# Altium integrated library NXP_60_26022015.IntLib: 1306 symbols (part 17 of 28)
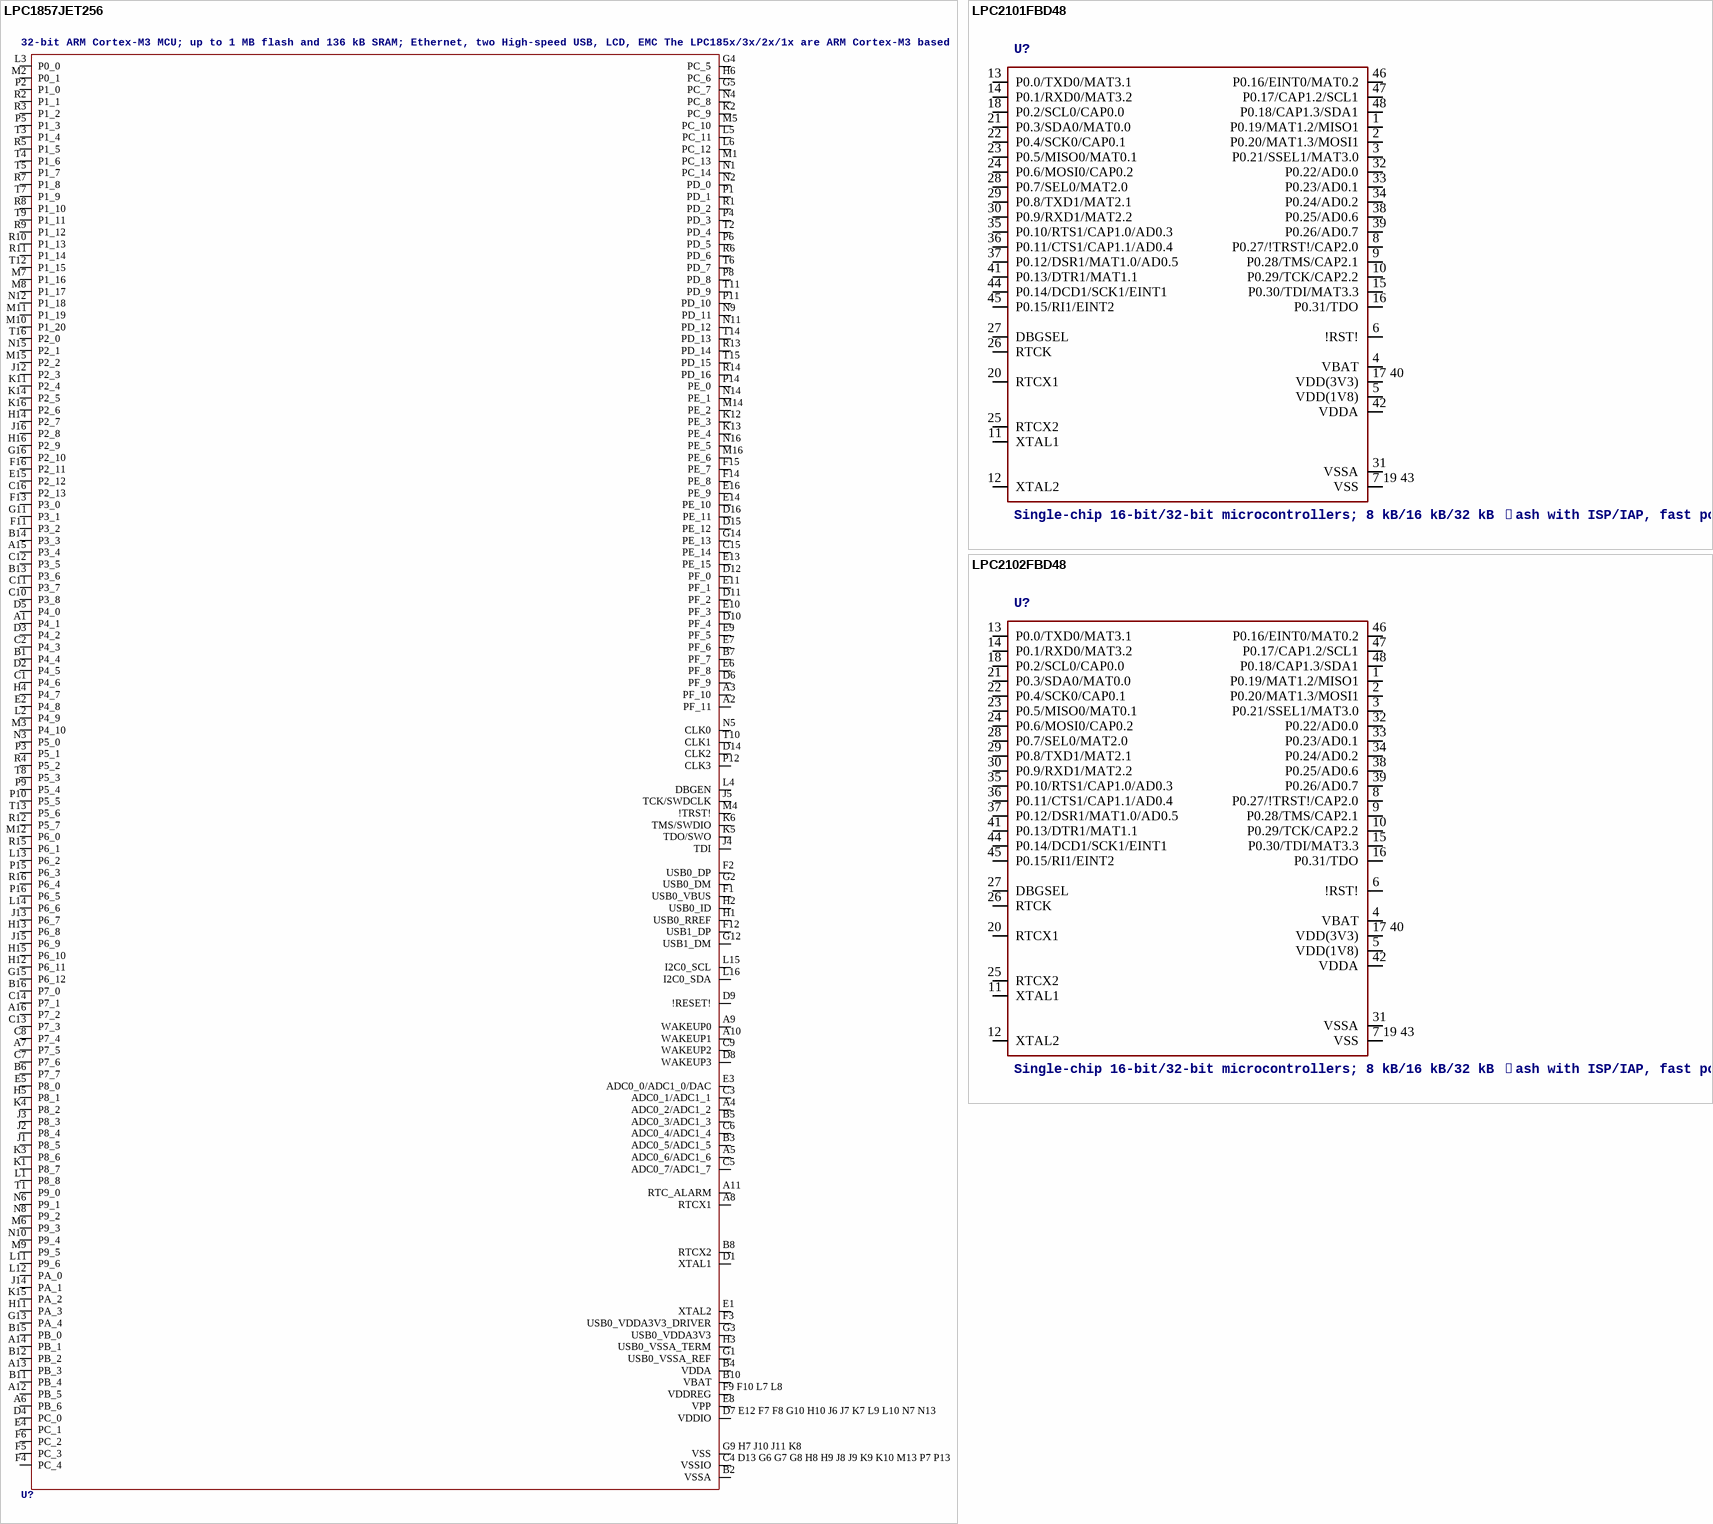
[diagram p201: symbols LPC1857JET256 to LPC2102FBD48]

## LPC2101FBD48
designator U?, comment Single-chip 16-bit/32-bit microcontrollers; 8 kB/16 kB/32 kB ﬂash with ISP/IAP, fast ports and 10-bit ADC The LPC2101/02/03 microcontrollers are based on a 16-bit/32-bit ARM7TDMI-S CPU with real-time emulation that combines the microcontroller with 8 kB, 16 kB or 32 kB of embedded high-speed ﬂash memory. A 128-bit wide memory interface and a unique accelerator architecture enable 32-bit code execution at the maximum clock rate. For critical performance in interrupt service routines and DSP algorithms, this increases performance up to 30 % over Thumb mode. For critical code size applications, the alternative 16-bit Thumb mode reduces code by more than 30 % with minimal performance penalty. Due to their tiny size and low power consumption, the LPC2101/02/03 are ideal for applications where miniaturization is a key requirement. A blend of serial communications interfaces ranging from multiple UARTs, SPI to SSP and two I2C-buses, combined with on-chip SRAM of 2 kB/4 kB/8 kB, make these devices very well suited for communication gateways and protocol converters. The superior performance also makes these devices suitable for use as math coprocessors. Various 32-bit and 16-bit timers, an improved 10-bit ADC, PWM features through output match on all timers, and 32 fast GPIO lines with up to nine edge or level sensitive external interrupt pins make these microcontrollers particularly suitable for industrial control and medical systems.    AAL Eindhoven MK
FLASH: 8kB; SRAM: 2kB
footprint SOT313-2
pins: 1 P0.19/MAT1.2/MISO1, 2 P0.20/MAT1.3/MOSI1, 3 P0.21/SSEL1/MAT3.0, 4 VBAT (power), 5 VDD(1V8) (power), 6 !RST!, 7 19 43 VSS (power), 8 P0.27/!TRST!/CAP2.0, 9 P0.28/TMS/CAP2.1, 10 P0.29/TCK/CAP2.2, 11 XTAL1, 12 XTAL2, 13 P0.0/TXD0/MAT3.1, 14 P0.1/RXD0/MAT3.2, 15 P0.30/TDI/MAT3.3, 16 P0.31/TDO, 17 40 VDD(3V3) (power), 18 P0.2/SCL0/CAP0.0, 20 RTCX1, 21 P0.3/SDA0/MAT0.0, 22 P0.4/SCK0/CAP0.1, 23 P0.5/MISO0/MAT0.1, 24 P0.6/MOSI0/CAP0.2, 25 RTCX2, 26 RTCK, 27 DBGSEL, 28 P0.7/SEL0/MAT2.0, 29 P0.8/TXD1/MAT2.1, 30 P0.9/RXD1/MAT2.2, 31 VSSA (power), 32 P0.22/AD0.0, 33 P0.23/AD0.1, 34 P0.24/AD0.2, 35 P0.10/RTS1/CAP1.0/AD0.3, 36 P0.11/CTS1/CAP1.1/AD0.4, 37 P0.12/DSR1/MAT1.0/AD0.5, 38 P0.25/AD0.6, 39 P0.26/AD0.7, 41 P0.13/DTR1/MAT1.1, 42 VDDA (power), 44 P0.14/DCD1/SCK1/EINT1, 45 P0.15/RI1/EINT2, 46 P0.16/EINT0/MAT0.2, 47 P0.17/CAP1.2/SCL1, 48 P0.18/CAP1.3/SDA1

## LPC2102FBD48
designator U?, comment Single-chip 16-bit/32-bit microcontrollers; 8 kB/16 kB/32 kB ﬂash with ISP/IAP, fast ports and 10-bit ADC The LPC2101/02/03 microcontrollers are based on a 16-bit/32-bit ARM7TDMI-S CPU with real-time emulation that combines the microcontroller with 8 kB, 16 kB or 32 kB of embedded high-speed ﬂash memory. A 128-bit wide memory interface and a unique accelerator architecture enable 32-bit code execution at the maximum clock rate. For critical performance in interrupt service routines and DSP algorithms, this increases performance up to 30 % over Thumb mode. For critical code size applications, the alternative 16-bit Thumb mode reduces code by more than 30 % with minimal performance penalty. Due to their tiny size and low power consumption, the LPC2101/02/03 are ideal for applications where miniaturization is a key requirement. A blend of serial communications interfaces ranging from multiple UARTs, SPI to SSP and two I2C-buses, combined with on-chip SRAM of 2 kB/4 kB/8 kB, make these devices very well suited for communication gateways and protocol converters. The superior performance also makes these devices suitable for use as math coprocessors. Various 32-bit and 16-bit timers, an improved 10-bit ADC, PWM features through output match on all timers, and 32 fast GPIO lines with up to nine edge or level sensitive external interrupt pins make these microcontrollers particularly suitable for industrial control and medical systems.    AAL Eindhoven MK
FLASH: 16kB; SRAM: 4kB
footprint SOT313-2
pins: 1 P0.19/MAT1.2/MISO1, 2 P0.20/MAT1.3/MOSI1, 3 P0.21/SSEL1/MAT3.0, 4 VBAT (power), 5 VDD(1V8) (power), 6 !RST!, 7 19 43 VSS (power), 8 P0.27/!TRST!/CAP2.0, 9 P0.28/TMS/CAP2.1, 10 P0.29/TCK/CAP2.2, 11 XTAL1, 12 XTAL2, 13 P0.0/TXD0/MAT3.1, 14 P0.1/RXD0/MAT3.2, 15 P0.30/TDI/MAT3.3, 16 P0.31/TDO, 17 40 VDD(3V3) (power), 18 P0.2/SCL0/CAP0.0, 20 RTCX1, 21 P0.3/SDA0/MAT0.0, 22 P0.4/SCK0/CAP0.1, 23 P0.5/MISO0/MAT0.1, 24 P0.6/MOSI0/CAP0.2, 25 RTCX2, 26 RTCK, 27 DBGSEL, 28 P0.7/SEL0/MAT2.0, 29 P0.8/TXD1/MAT2.1, 30 P0.9/RXD1/MAT2.2, 31 VSSA (power), 32 P0.22/AD0.0, 33 P0.23/AD0.1, 34 P0.24/AD0.2, 35 P0.10/RTS1/CAP1.0/AD0.3, 36 P0.11/CTS1/CAP1.1/AD0.4, 37 P0.12/DSR1/MAT1.0/AD0.5, 38 P0.25/AD0.6, 39 P0.26/AD0.7, 41 P0.13/DTR1/MAT1.1, 42 VDDA (power), 44 P0.14/DCD1/SCK1/EINT1, 45 P0.15/RI1/EINT2, 46 P0.16/EINT0/MAT0.2, 47 P0.17/CAP1.2/SCL1, 48 P0.18/CAP1.3/SDA1

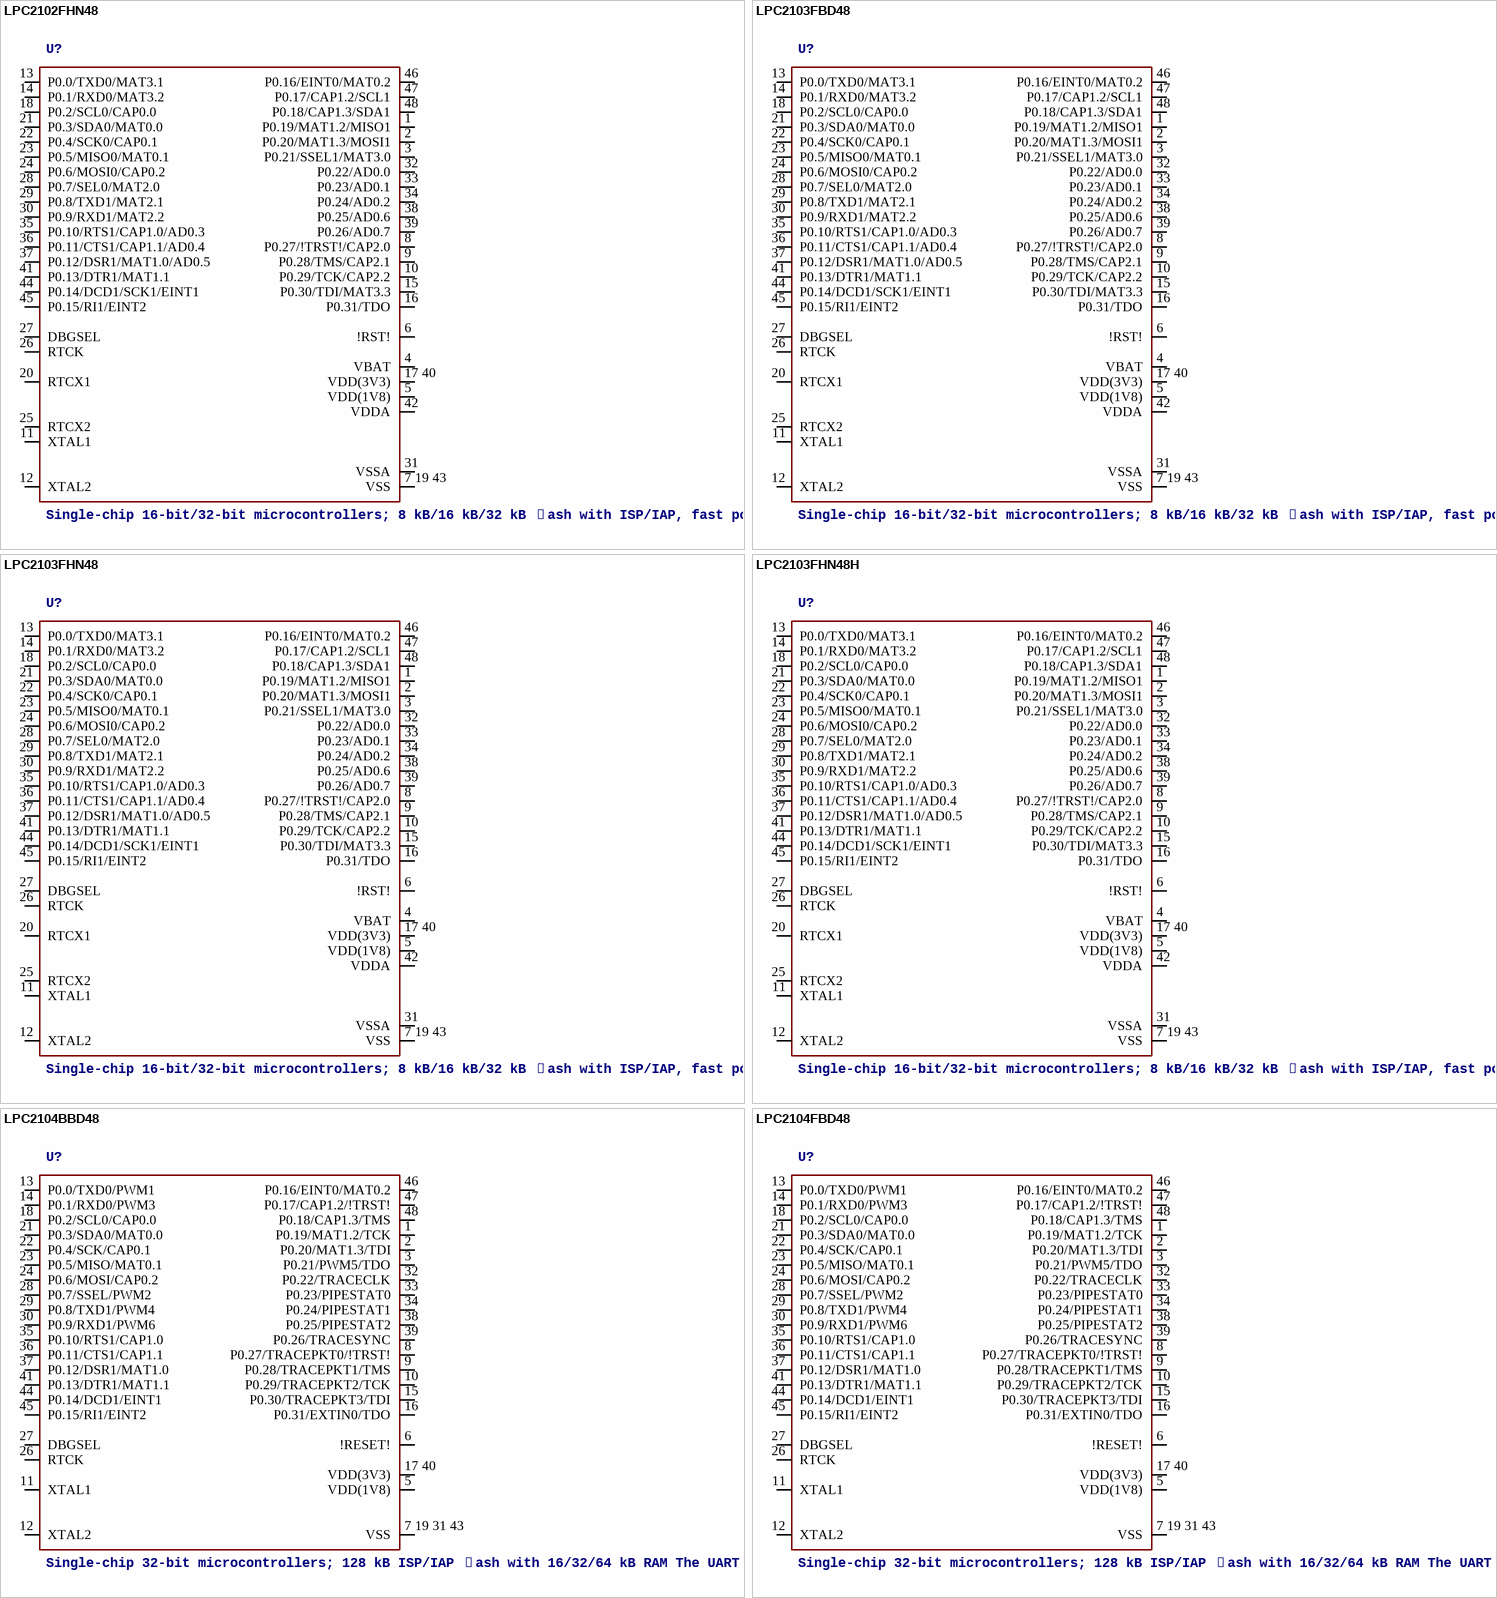
[diagram p110: symbols LPC2102FHN48 to LPC2104FBD48]

## LPC2102FHN48
designator U?, comment Single-chip 16-bit/32-bit microcontrollers; 8 kB/16 kB/32 kB ﬂash with ISP/IAP, fast ports and 10-bit ADC The LPC2101/02/03 microcontrollers are based on a 16-bit/32-bit ARM7TDMI-S CPU with real-time emulation that combines the microcontroller with 8 kB, 16 kB or 32 kB of embedded high-speed ﬂash memory. A 128-bit wide memory interface and a unique accelerator architecture enable 32-bit code execution at the maximum clock rate. For critical performance in interrupt service routines and DSP algorithms, this increases performance up to 30 % over Thumb mode. For critical code size applications, the alternative 16-bit Thumb mode reduces code by more than 30 % with minimal performance penalty. Due to their tiny size and low power consumption, the LPC2101/02/03 are ideal for applications where miniaturization is a key requirement. A blend of serial communications interfaces ranging from multiple UARTs, SPI to SSP and two I2C-buses, combined with on-chip SRAM of 2 kB/4 kB/8 kB, make these devices very well suited for communication gateways and protocol converters. The superior performance also makes these devices suitable for use as math coprocessors. Various 32-bit and 16-bit timers, an improved 10-bit ADC, PWM features through output match on all timers, and 32 fast GPIO lines with up to nine edge or level sensitive external interrupt pins make these microcontrollers particularly suitable for industrial control and medical systems.    AAL Eindhoven MK
FLASH: 16kB; SRAM: 4kB
footprint SOT619-7
pins: 1 P0.19/MAT1.2/MISO1, 2 P0.20/MAT1.3/MOSI1, 3 P0.21/SSEL1/MAT3.0, 4 VBAT (power), 5 VDD(1V8) (power), 6 !RST!, 7 19 43 VSS (power), 8 P0.27/!TRST!/CAP2.0, 9 P0.28/TMS/CAP2.1, 10 P0.29/TCK/CAP2.2, 11 XTAL1, 12 XTAL2, 13 P0.0/TXD0/MAT3.1, 14 P0.1/RXD0/MAT3.2, 15 P0.30/TDI/MAT3.3, 16 P0.31/TDO, 17 40 VDD(3V3) (power), 18 P0.2/SCL0/CAP0.0, 20 RTCX1, 21 P0.3/SDA0/MAT0.0, 22 P0.4/SCK0/CAP0.1, 23 P0.5/MISO0/MAT0.1, 24 P0.6/MOSI0/CAP0.2, 25 RTCX2, 26 RTCK, 27 DBGSEL, 28 P0.7/SEL0/MAT2.0, 29 P0.8/TXD1/MAT2.1, 30 P0.9/RXD1/MAT2.2, 31 VSSA (power), 32 P0.22/AD0.0, 33 P0.23/AD0.1, 34 P0.24/AD0.2, 35 P0.10/RTS1/CAP1.0/AD0.3, 36 P0.11/CTS1/CAP1.1/AD0.4, 37 P0.12/DSR1/MAT1.0/AD0.5, 38 P0.25/AD0.6, 39 P0.26/AD0.7, 41 P0.13/DTR1/MAT1.1, 42 VDDA (power), 44 P0.14/DCD1/SCK1/EINT1, 45 P0.15/RI1/EINT2, 46 P0.16/EINT0/MAT0.2, 47 P0.17/CAP1.2/SCL1, 48 P0.18/CAP1.3/SDA1

## LPC2103FBD48
designator U?, comment Single-chip 16-bit/32-bit microcontrollers; 8 kB/16 kB/32 kB ﬂash with ISP/IAP, fast ports and 10-bit ADC The LPC2101/02/03 microcontrollers are based on a 16-bit/32-bit ARM7TDMI-S CPU with real-time emulation that combines the microcontroller with 8 kB, 16 kB or 32 kB of embedded high-speed ﬂash memory. A 128-bit wide memory interface and a unique accelerator architecture enable 32-bit code execution at the maximum clock rate. For critical performance in interrupt service routines and DSP algorithms, this increases performance up to 30 % over Thumb mode. For critical code size applications, the alternative 16-bit Thumb mode reduces code by more than 30 % with minimal performance penalty. Due to their tiny size and low power consumption, the LPC2101/02/03 are ideal for applications where miniaturization is a key requirement. A blend of serial communications interfaces ranging from multiple UARTs, SPI to SSP and two I2C-buses, combined with on-chip SRAM of 2 kB/4 kB/8 kB, make these devices very well suited for communication gateways and protocol converters. The superior performance also makes these devices suitable for use as math coprocessors. Various 32-bit and 16-bit timers, an improved 10-bit ADC, PWM features through output match on all timers, and 32 fast GPIO lines with up to nine edge or level sensitive external interrupt pins make these microcontrollers particularly suitable for industrial control and medical systems.    AAL Eindhoven MK
FLASH: 32kB; SRAM: 8kB
footprint SOT313-2
pins: 1 P0.19/MAT1.2/MISO1, 2 P0.20/MAT1.3/MOSI1, 3 P0.21/SSEL1/MAT3.0, 4 VBAT (power), 5 VDD(1V8) (power), 6 !RST!, 7 19 43 VSS (power), 8 P0.27/!TRST!/CAP2.0, 9 P0.28/TMS/CAP2.1, 10 P0.29/TCK/CAP2.2, 11 XTAL1, 12 XTAL2, 13 P0.0/TXD0/MAT3.1, 14 P0.1/RXD0/MAT3.2, 15 P0.30/TDI/MAT3.3, 16 P0.31/TDO, 17 40 VDD(3V3) (power), 18 P0.2/SCL0/CAP0.0, 20 RTCX1, 21 P0.3/SDA0/MAT0.0, 22 P0.4/SCK0/CAP0.1, 23 P0.5/MISO0/MAT0.1, 24 P0.6/MOSI0/CAP0.2, 25 RTCX2, 26 RTCK, 27 DBGSEL, 28 P0.7/SEL0/MAT2.0, 29 P0.8/TXD1/MAT2.1, 30 P0.9/RXD1/MAT2.2, 31 VSSA (power), 32 P0.22/AD0.0, 33 P0.23/AD0.1, 34 P0.24/AD0.2, 35 P0.10/RTS1/CAP1.0/AD0.3, 36 P0.11/CTS1/CAP1.1/AD0.4, 37 P0.12/DSR1/MAT1.0/AD0.5, 38 P0.25/AD0.6, 39 P0.26/AD0.7, 41 P0.13/DTR1/MAT1.1, 42 VDDA (power), 44 P0.14/DCD1/SCK1/EINT1, 45 P0.15/RI1/EINT2, 46 P0.16/EINT0/MAT0.2, 47 P0.17/CAP1.2/SCL1, 48 P0.18/CAP1.3/SDA1

## LPC2103FHN48
designator U?, comment Single-chip 16-bit/32-bit microcontrollers; 8 kB/16 kB/32 kB ﬂash with ISP/IAP, fast ports and 10-bit ADC The LPC2101/02/03 microcontrollers are based on a 16-bit/32-bit ARM7TDMI-S CPU with real-time emulation that combines the microcontroller with 8 kB, 16 kB or 32 kB of embedded high-speed ﬂash memory. A 128-bit wide memory interface and a unique accelerator architecture enable 32-bit code execution at the maximum clock rate. For critical performance in interrupt service routines and DSP algorithms, this increases performance up to 30 % over Thumb mode. For critical code size applications, the alternative 16-bit Thumb mode reduces code by more than 30 % with minimal performance penalty. Due to their tiny size and low power consumption, the LPC2101/02/03 are ideal for applications where miniaturization is a key requirement. A blend of serial communications interfaces ranging from multiple UARTs, SPI to SSP and two I2C-buses, combined with on-chip SRAM of 2 kB/4 kB/8 kB, make these devices very well suited for communication gateways and protocol converters. The superior performance also makes these devices suitable for use as math coprocessors. Various 32-bit and 16-bit timers, an improved 10-bit ADC, PWM features through output match on all timers, and 32 fast GPIO lines with up to nine edge or level sensitive external interrupt pins make these microcontrollers particularly suitable for industrial control and medical systems.    AAL Eindhoven MK
FLASH: 32kB; SRAM: 8kB
footprint SOT619-7
pins: 1 P0.19/MAT1.2/MISO1, 2 P0.20/MAT1.3/MOSI1, 3 P0.21/SSEL1/MAT3.0, 4 VBAT (power), 5 VDD(1V8) (power), 6 !RST!, 7 19 43 VSS (power), 8 P0.27/!TRST!/CAP2.0, 9 P0.28/TMS/CAP2.1, 10 P0.29/TCK/CAP2.2, 11 XTAL1, 12 XTAL2, 13 P0.0/TXD0/MAT3.1, 14 P0.1/RXD0/MAT3.2, 15 P0.30/TDI/MAT3.3, 16 P0.31/TDO, 17 40 VDD(3V3) (power), 18 P0.2/SCL0/CAP0.0, 20 RTCX1, 21 P0.3/SDA0/MAT0.0, 22 P0.4/SCK0/CAP0.1, 23 P0.5/MISO0/MAT0.1, 24 P0.6/MOSI0/CAP0.2, 25 RTCX2, 26 RTCK, 27 DBGSEL, 28 P0.7/SEL0/MAT2.0, 29 P0.8/TXD1/MAT2.1, 30 P0.9/RXD1/MAT2.2, 31 VSSA (power), 32 P0.22/AD0.0, 33 P0.23/AD0.1, 34 P0.24/AD0.2, 35 P0.10/RTS1/CAP1.0/AD0.3, 36 P0.11/CTS1/CAP1.1/AD0.4, 37 P0.12/DSR1/MAT1.0/AD0.5, 38 P0.25/AD0.6, 39 P0.26/AD0.7, 41 P0.13/DTR1/MAT1.1, 42 VDDA (power), 44 P0.14/DCD1/SCK1/EINT1, 45 P0.15/RI1/EINT2, 46 P0.16/EINT0/MAT0.2, 47 P0.17/CAP1.2/SCL1, 48 P0.18/CAP1.3/SDA1

## LPC2103FHN48H
designator U?, comment Single-chip 16-bit/32-bit microcontrollers; 8 kB/16 kB/32 kB ﬂash with ISP/IAP, fast ports and 10-bit ADC The LPC2101/02/03 microcontrollers are based on a 16-bit/32-bit ARM7TDMI-S CPU with real-time emulation that combines the microcontroller with 8 kB, 16 kB or 32 kB of embedded high-speed ﬂash memory. A 128-bit wide memory interface and a unique accelerator architecture enable 32-bit code execution at the maximum clock rate. For critical performance in interrupt service routines and DSP algorithms, this increases performance up to 30 % over Thumb mode. For critical code size applications, the alternative 16-bit Thumb mode reduces code by more than 30 % with minimal performance penalty. Due to their tiny size and low power consumption, the LPC2101/02/03 are ideal for applications where miniaturization is a key requirement. A blend of serial communications interfaces ranging from multiple UARTs, SPI to SSP and two I2C-buses, combined with on-chip SRAM of 2 kB/4 kB/8 kB, make these devices very well suited for communication gateways and protocol converters. The superior performance also makes these devices suitable for use as math coprocessors. Various 32-bit and 16-bit timers, an improved 10-bit ADC, PWM features through output match on all timers, and 32 fast GPIO lines with up to nine edge or level sensitive external interrupt pins make these microcontrollers particularly suitable for industrial control and medical systems.    AAL Eindhoven MK
FLASH: 32kB; SRAM: 8kB
footprint SOT778-3
pins: 1 P0.19/MAT1.2/MISO1, 2 P0.20/MAT1.3/MOSI1, 3 P0.21/SSEL1/MAT3.0, 4 VBAT (power), 5 VDD(1V8) (power), 6 !RST!, 7 19 43 VSS (power), 8 P0.27/!TRST!/CAP2.0, 9 P0.28/TMS/CAP2.1, 10 P0.29/TCK/CAP2.2, 11 XTAL1, 12 XTAL2, 13 P0.0/TXD0/MAT3.1, 14 P0.1/RXD0/MAT3.2, 15 P0.30/TDI/MAT3.3, 16 P0.31/TDO, 17 40 VDD(3V3) (power), 18 P0.2/SCL0/CAP0.0, 20 RTCX1, 21 P0.3/SDA0/MAT0.0, 22 P0.4/SCK0/CAP0.1, 23 P0.5/MISO0/MAT0.1, 24 P0.6/MOSI0/CAP0.2, 25 RTCX2, 26 RTCK, 27 DBGSEL, 28 P0.7/SEL0/MAT2.0, 29 P0.8/TXD1/MAT2.1, 30 P0.9/RXD1/MAT2.2, 31 VSSA (power), 32 P0.22/AD0.0, 33 P0.23/AD0.1, 34 P0.24/AD0.2, 35 P0.10/RTS1/CAP1.0/AD0.3, 36 P0.11/CTS1/CAP1.1/AD0.4, 37 P0.12/DSR1/MAT1.0/AD0.5, 38 P0.25/AD0.6, 39 P0.26/AD0.7, 41 P0.13/DTR1/MAT1.1, 42 VDDA (power), 44 P0.14/DCD1/SCK1/EINT1, 45 P0.15/RI1/EINT2, 46 P0.16/EINT0/MAT0.2, 47 P0.17/CAP1.2/SCL1, 48 P0.18/CAP1.3/SDA1

## LPC2104BBD48
designator U?, comment Single-chip 32-bit microcontrollers; 128 kB ISP/IAP ﬂash with 16/32/64 kB RAM The UART are based on a 16/32-bit ARM7TDMI-S CPU with real-time emulation and embedded trace support, together with 128 kB of embedded high speed ﬂash memory. A 128-bit wide memory interface and a unique accelerator architecture enable 32-bit code execution at maximum clock rate. For critical code size applications, the alternative 16-bit Thumb mode reduces code by more than 30 % with minimal performance penalty. Due to their tiny size and low power consumption, these microcontrollers are ideal for applications where miniaturization is a key requirement, such as access control and point-of-sale. With a wide range of serial communications interfaces and on-chip SRAM options up to 64 kB, they are very well suited for communication gateways and protocol converters, soft modems, voice recognition and low end imaging, providing both large buffer size and high processing power. Various 32-bit timers, PWM channels, and 32 GPIO lines make these microcontrollers particularly suitable for industrial control and medical systems. Remark: Throughout the data sheet, the term LPC2104/2105/2106 will apply to devices with and without /00 and /01 sufﬁxes. Sufﬁxes will be used to differentiate devices whenever they include new features.    AAL Eindhoven MK
FLASH: 128kB; RANGE: 0~70C; SRAM: 16kB
footprint SOT313-2
pins: 1 P0.19/MAT1.2/TCK, 2 P0.20/MAT1.3/TDI, 3 P0.21/PWM5/TDO, 5 VDD(1V8) (power), 6 !RESET!, 7 19 31 43 VSS (power), 8 P0.27/TRACEPKT0/!TRST!, 9 P0.28/TRACEPKT1/TMS, 10 P0.29/TRACEPKT2/TCK, 11 XTAL1, 12 XTAL2, 13 P0.0/TXD0/PWM1, 14 P0.1/RXD0/PWM3, 15 P0.30/TRACEPKT3/TDI, 16 P0.31/EXTIN0/TDO, 17 40 VDD(3V3) (power), 18 P0.2/SCL0/CAP0.0, 21 P0.3/SDA0/MAT0.0, 22 P0.4/SCK/CAP0.1, 23 P0.5/MISO/MAT0.1, 24 P0.6/MOSI/CAP0.2, 26 RTCK, 27 DBGSEL, 28 P0.7/SSEL/PWM2, 29 P0.8/TXD1/PWM4, 30 P0.9/RXD1/PWM6, 32 P0.22/TRACECLK, 33 P0.23/PIPESTAT0, 34 P0.24/PIPESTAT1, 35 P0.10/RTS1/CAP1.0, 36 P0.11/CTS1/CAP1.1, 37 P0.12/DSR1/MAT1.0, 38 P0.25/PIPESTAT2, 39 P0.26/TRACESYNC, 41 P0.13/DTR1/MAT1.1, 44 P0.14/DCD1/EINT1, 45 P0.15/RI1/EINT2, 46 P0.16/EINT0/MAT0.2, 47 P0.17/CAP1.2/!TRST!, 48 P0.18/CAP1.3/TMS

## LPC2104FBD48
designator U?, comment Single-chip 32-bit microcontrollers; 128 kB ISP/IAP ﬂash with 16/32/64 kB RAM The UART are based on a 16/32-bit ARM7TDMI-S CPU with real-time emulation and embedded trace support, together with 128 kB of embedded high speed ﬂash memory. A 128-bit wide memory interface and a unique accelerator architecture enable 32-bit code execution at maximum clock rate. For critical code size applications, the alternative 16-bit Thumb mode reduces code by more than 30 % with minimal performance penalty. Due to their tiny size and low power consumption, these microcontrollers are ideal for applications where miniaturization is a key requirement, such as access control and point-of-sale. With a wide range of serial communications interfaces and on-chip SRAM options up to 64 kB, they are very well suited for communication gateways and protocol converters, soft modems, voice recognition and low end imaging, providing both large buffer size and high processing power. Various 32-bit timers, PWM channels, and 32 GPIO lines make these microcontrollers particularly suitable for industrial control and medical systems. Remark: Throughout the data sheet, the term LPC2104/2105/2106 will apply to devices with and without /00 and /01 sufﬁxes. Sufﬁxes will be used to differentiate devices whenever they include new features.    AAL Eindhoven MK
FLASH: 128k; RANGE: -40~+85C; SRAM: 16kB
footprint SOT313-2
pins: 1 P0.19/MAT1.2/TCK, 2 P0.20/MAT1.3/TDI, 3 P0.21/PWM5/TDO, 5 VDD(1V8) (power), 6 !RESET!, 7 19 31 43 VSS (power), 8 P0.27/TRACEPKT0/!TRST!, 9 P0.28/TRACEPKT1/TMS, 10 P0.29/TRACEPKT2/TCK, 11 XTAL1, 12 XTAL2, 13 P0.0/TXD0/PWM1, 14 P0.1/RXD0/PWM3, 15 P0.30/TRACEPKT3/TDI, 16 P0.31/EXTIN0/TDO, 17 40 VDD(3V3) (power), 18 P0.2/SCL0/CAP0.0, 21 P0.3/SDA0/MAT0.0, 22 P0.4/SCK/CAP0.1, 23 P0.5/MISO/MAT0.1, 24 P0.6/MOSI/CAP0.2, 26 RTCK, 27 DBGSEL, 28 P0.7/SSEL/PWM2, 29 P0.8/TXD1/PWM4, 30 P0.9/RXD1/PWM6, 32 P0.22/TRACECLK, 33 P0.23/PIPESTAT0, 34 P0.24/PIPESTAT1, 35 P0.10/RTS1/CAP1.0, 36 P0.11/CTS1/CAP1.1, 37 P0.12/DSR1/MAT1.0, 38 P0.25/PIPESTAT2, 39 P0.26/TRACESYNC, 41 P0.13/DTR1/MAT1.1, 44 P0.14/DCD1/EINT1, 45 P0.15/RI1/EINT2, 46 P0.16/EINT0/MAT0.2, 47 P0.17/CAP1.2/!TRST!, 48 P0.18/CAP1.3/TMS

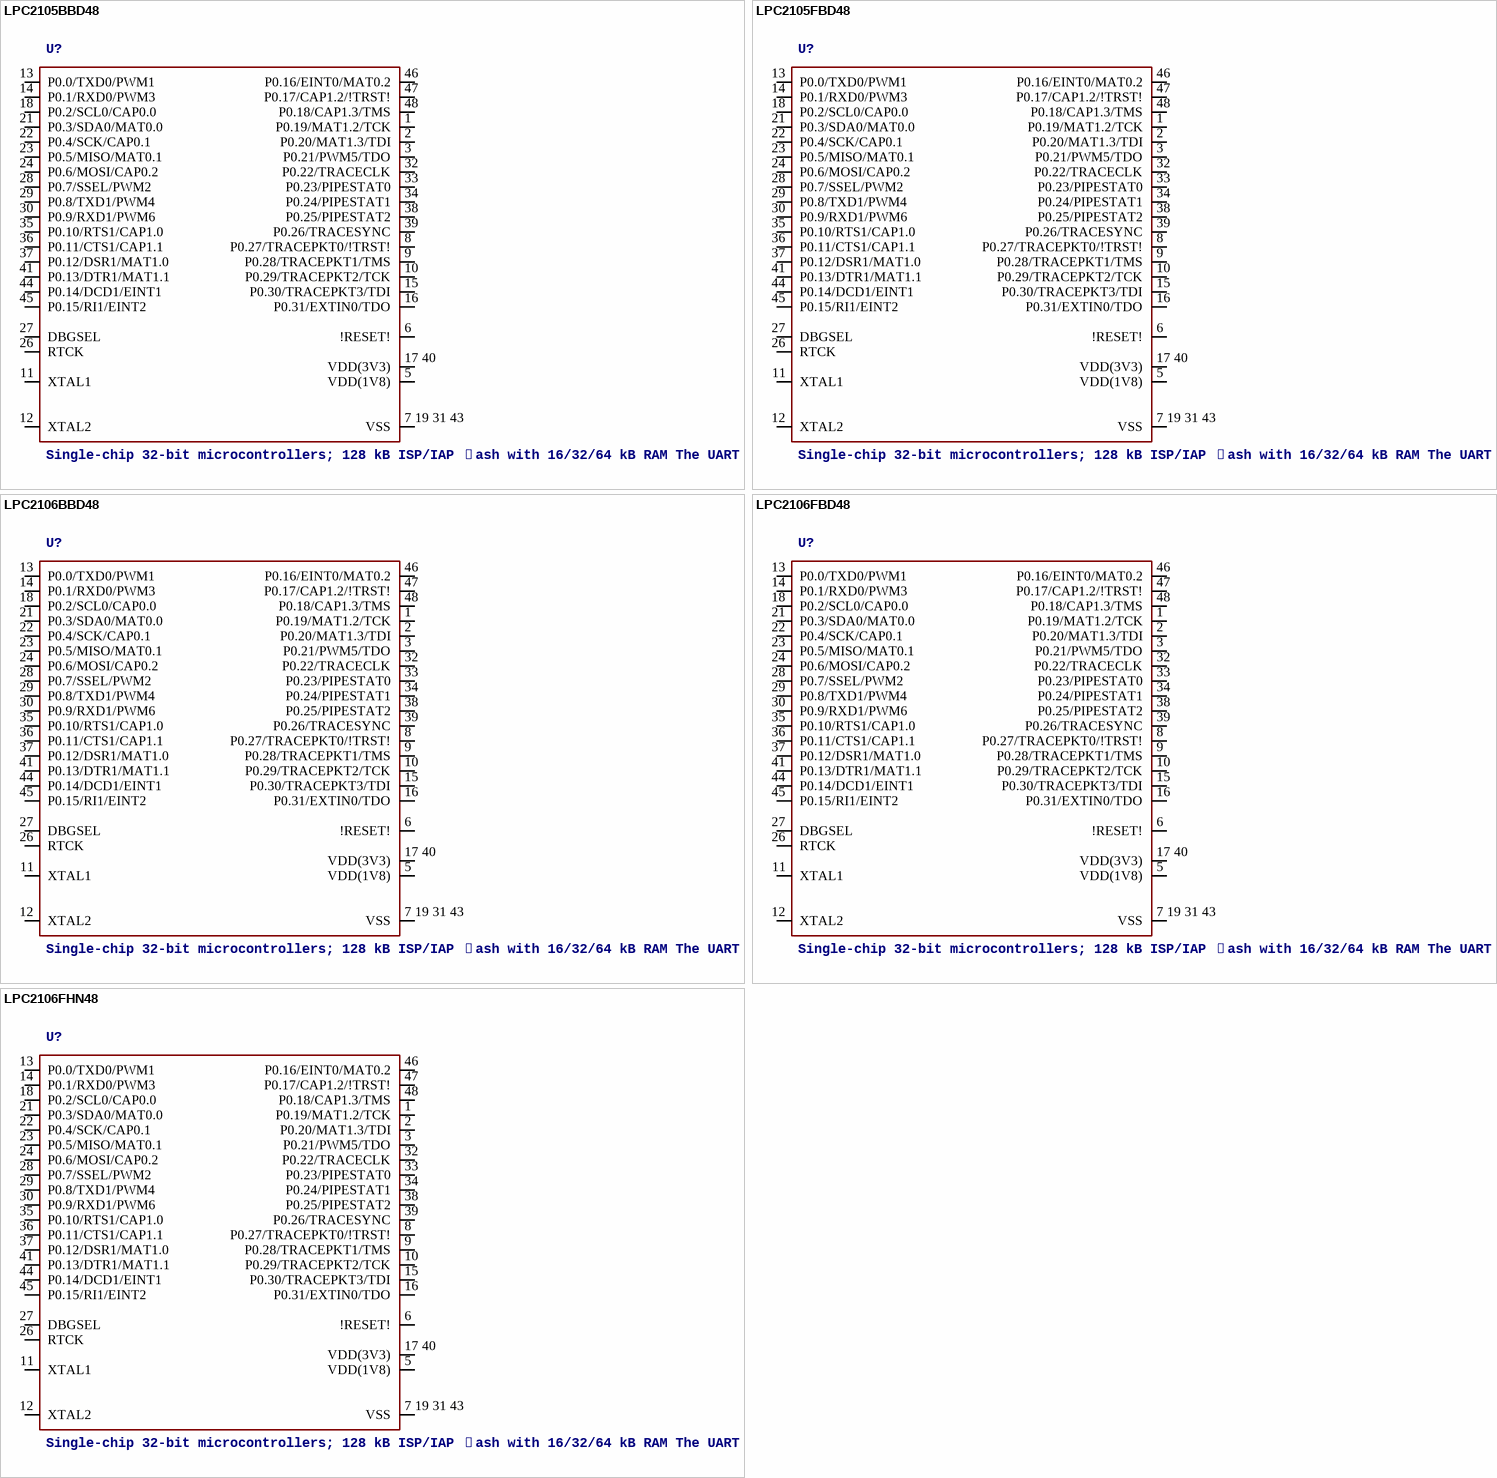
[diagram p111: symbols LPC2105BBD48 to LPC2106FHN48]

## LPC2105BBD48
designator U?, comment Single-chip 32-bit microcontrollers; 128 kB ISP/IAP ﬂash with 16/32/64 kB RAM The UART are based on a 16/32-bit ARM7TDMI-S CPU with real-time emulation and embedded trace support, together with 128 kB of embedded high speed ﬂash memory. A 128-bit wide memory interface and a unique accelerator architecture enable 32-bit code execution at maximum clock rate. For critical code size applications, the alternative 16-bit Thumb mode reduces code by more than 30 % with minimal performance penalty. Due to their tiny size and low power consumption, these microcontrollers are ideal for applications where miniaturization is a key requirement, such as access control and point-of-sale. With a wide range of serial communications interfaces and on-chip SRAM options up to 64 kB, they are very well suited for communication gateways and protocol converters, soft modems, voice recognition and low end imaging, providing both large buffer size and high processing power. Various 32-bit timers, PWM channels, and 32 GPIO lines make these microcontrollers particularly suitable for industrial control and medical systems. Remark: Throughout the data sheet, the term LPC2104/2105/2106 will apply to devices with and without /00 and /01 sufﬁxes. Sufﬁxes will be used to differentiate devices whenever they include new features.    AAL Eindhoven MK
FLASH: 128kB; RANGE: 0~70C; SRAM: 32kB
footprint SOT313-2
pins: 1 P0.19/MAT1.2/TCK, 2 P0.20/MAT1.3/TDI, 3 P0.21/PWM5/TDO, 5 VDD(1V8) (power), 6 !RESET!, 7 19 31 43 VSS (power), 8 P0.27/TRACEPKT0/!TRST!, 9 P0.28/TRACEPKT1/TMS, 10 P0.29/TRACEPKT2/TCK, 11 XTAL1, 12 XTAL2, 13 P0.0/TXD0/PWM1, 14 P0.1/RXD0/PWM3, 15 P0.30/TRACEPKT3/TDI, 16 P0.31/EXTIN0/TDO, 17 40 VDD(3V3) (power), 18 P0.2/SCL0/CAP0.0, 21 P0.3/SDA0/MAT0.0, 22 P0.4/SCK/CAP0.1, 23 P0.5/MISO/MAT0.1, 24 P0.6/MOSI/CAP0.2, 26 RTCK, 27 DBGSEL, 28 P0.7/SSEL/PWM2, 29 P0.8/TXD1/PWM4, 30 P0.9/RXD1/PWM6, 32 P0.22/TRACECLK, 33 P0.23/PIPESTAT0, 34 P0.24/PIPESTAT1, 35 P0.10/RTS1/CAP1.0, 36 P0.11/CTS1/CAP1.1, 37 P0.12/DSR1/MAT1.0, 38 P0.25/PIPESTAT2, 39 P0.26/TRACESYNC, 41 P0.13/DTR1/MAT1.1, 44 P0.14/DCD1/EINT1, 45 P0.15/RI1/EINT2, 46 P0.16/EINT0/MAT0.2, 47 P0.17/CAP1.2/!TRST!, 48 P0.18/CAP1.3/TMS

## LPC2105FBD48
designator U?, comment Single-chip 32-bit microcontrollers; 128 kB ISP/IAP ﬂash with 16/32/64 kB RAM The UART are based on a 16/32-bit ARM7TDMI-S CPU with real-time emulation and embedded trace support, together with 128 kB of embedded high speed ﬂash memory. A 128-bit wide memory interface and a unique accelerator architecture enable 32-bit code execution at maximum clock rate. For critical code size applications, the alternative 16-bit Thumb mode reduces code by more than 30 % with minimal performance penalty. Due to their tiny size and low power consumption, these microcontrollers are ideal for applications where miniaturization is a key requirement, such as access control and point-of-sale. With a wide range of serial communications interfaces and on-chip SRAM options up to 64 kB, they are very well suited for communication gateways and protocol converters, soft modems, voice recognition and low end imaging, providing both large buffer size and high processing power. Various 32-bit timers, PWM channels, and 32 GPIO lines make these microcontrollers particularly suitable for industrial control and medical systems. Remark: Throughout the data sheet, the term LPC2104/2105/2106 will apply to devices with and without /00 and /01 sufﬁxes. Sufﬁxes will be used to differentiate devices whenever they include new features.    AAL Eindhoven MK
FLASH: 128k; RANGE: -40~+85C; SRAM: 32kB
footprint SOT313-2
pins: 1 P0.19/MAT1.2/TCK, 2 P0.20/MAT1.3/TDI, 3 P0.21/PWM5/TDO, 5 VDD(1V8) (power), 6 !RESET!, 7 19 31 43 VSS (power), 8 P0.27/TRACEPKT0/!TRST!, 9 P0.28/TRACEPKT1/TMS, 10 P0.29/TRACEPKT2/TCK, 11 XTAL1, 12 XTAL2, 13 P0.0/TXD0/PWM1, 14 P0.1/RXD0/PWM3, 15 P0.30/TRACEPKT3/TDI, 16 P0.31/EXTIN0/TDO, 17 40 VDD(3V3) (power), 18 P0.2/SCL0/CAP0.0, 21 P0.3/SDA0/MAT0.0, 22 P0.4/SCK/CAP0.1, 23 P0.5/MISO/MAT0.1, 24 P0.6/MOSI/CAP0.2, 26 RTCK, 27 DBGSEL, 28 P0.7/SSEL/PWM2, 29 P0.8/TXD1/PWM4, 30 P0.9/RXD1/PWM6, 32 P0.22/TRACECLK, 33 P0.23/PIPESTAT0, 34 P0.24/PIPESTAT1, 35 P0.10/RTS1/CAP1.0, 36 P0.11/CTS1/CAP1.1, 37 P0.12/DSR1/MAT1.0, 38 P0.25/PIPESTAT2, 39 P0.26/TRACESYNC, 41 P0.13/DTR1/MAT1.1, 44 P0.14/DCD1/EINT1, 45 P0.15/RI1/EINT2, 46 P0.16/EINT0/MAT0.2, 47 P0.17/CAP1.2/!TRST!, 48 P0.18/CAP1.3/TMS

## LPC2106BBD48
designator U?, comment Single-chip 32-bit microcontrollers; 128 kB ISP/IAP ﬂash with 16/32/64 kB RAM The UART are based on a 16/32-bit ARM7TDMI-S CPU with real-time emulation and embedded trace support, together with 128 kB of embedded high speed ﬂash memory. A 128-bit wide memory interface and a unique accelerator architecture enable 32-bit code execution at maximum clock rate. For critical code size applications, the alternative 16-bit Thumb mode reduces code by more than 30 % with minimal performance penalty. Due to their tiny size and low power consumption, these microcontrollers are ideal for applications where miniaturization is a key requirement, such as access control and point-of-sale. With a wide range of serial communications interfaces and on-chip SRAM options up to 64 kB, they are very well suited for communication gateways and protocol converters, soft modems, voice recognition and low end imaging, providing both large buffer size and high processing power. Various 32-bit timers, PWM channels, and 32 GPIO lines make these microcontrollers particularly suitable for industrial control and medical systems. Remark: Throughout the data sheet, the term LPC2104/2105/2106 will apply to devices with and without /00 and /01 sufﬁxes. Sufﬁxes will be used to differentiate devices whenever they include new features.    AAL Eindhoven MK
FLASH: 128kB; RANGE: 0~70C; SRAM: 64kB
footprint SOT313-2
pins: 1 P0.19/MAT1.2/TCK, 2 P0.20/MAT1.3/TDI, 3 P0.21/PWM5/TDO, 5 VDD(1V8) (power), 6 !RESET!, 7 19 31 43 VSS (power), 8 P0.27/TRACEPKT0/!TRST!, 9 P0.28/TRACEPKT1/TMS, 10 P0.29/TRACEPKT2/TCK, 11 XTAL1, 12 XTAL2, 13 P0.0/TXD0/PWM1, 14 P0.1/RXD0/PWM3, 15 P0.30/TRACEPKT3/TDI, 16 P0.31/EXTIN0/TDO, 17 40 VDD(3V3) (power), 18 P0.2/SCL0/CAP0.0, 21 P0.3/SDA0/MAT0.0, 22 P0.4/SCK/CAP0.1, 23 P0.5/MISO/MAT0.1, 24 P0.6/MOSI/CAP0.2, 26 RTCK, 27 DBGSEL, 28 P0.7/SSEL/PWM2, 29 P0.8/TXD1/PWM4, 30 P0.9/RXD1/PWM6, 32 P0.22/TRACECLK, 33 P0.23/PIPESTAT0, 34 P0.24/PIPESTAT1, 35 P0.10/RTS1/CAP1.0, 36 P0.11/CTS1/CAP1.1, 37 P0.12/DSR1/MAT1.0, 38 P0.25/PIPESTAT2, 39 P0.26/TRACESYNC, 41 P0.13/DTR1/MAT1.1, 44 P0.14/DCD1/EINT1, 45 P0.15/RI1/EINT2, 46 P0.16/EINT0/MAT0.2, 47 P0.17/CAP1.2/!TRST!, 48 P0.18/CAP1.3/TMS

## LPC2106FBD48
designator U?, comment Single-chip 32-bit microcontrollers; 128 kB ISP/IAP ﬂash with 16/32/64 kB RAM The UART are based on a 16/32-bit ARM7TDMI-S CPU with real-time emulation and embedded trace support, together with 128 kB of embedded high speed ﬂash memory. A 128-bit wide memory interface and a unique accelerator architecture enable 32-bit code execution at maximum clock rate. For critical code size applications, the alternative 16-bit Thumb mode reduces code by more than 30 % with minimal performance penalty. Due to their tiny size and low power consumption, these microcontrollers are ideal for applications where miniaturization is a key requirement, such as access control and point-of-sale. With a wide range of serial communications interfaces and on-chip SRAM options up to 64 kB, they are very well suited for communication gateways and protocol converters, soft modems, voice recognition and low end imaging, providing both large buffer size and high processing power. Various 32-bit timers, PWM channels, and 32 GPIO lines make these microcontrollers particularly suitable for industrial control and medical systems. Remark: Throughout the data sheet, the term LPC2104/2105/2106 will apply to devices with and without /00 and /01 sufﬁxes. Sufﬁxes will be used to differentiate devices whenever they include new features.    AAL Eindhoven MK
FLASH: 128kB; RANGE: -40~+85C; SRAM: 64kB
footprint SOT313-2
pins: 1 P0.19/MAT1.2/TCK, 2 P0.20/MAT1.3/TDI, 3 P0.21/PWM5/TDO, 5 VDD(1V8) (power), 6 !RESET!, 7 19 31 43 VSS (power), 8 P0.27/TRACEPKT0/!TRST!, 9 P0.28/TRACEPKT1/TMS, 10 P0.29/TRACEPKT2/TCK, 11 XTAL1, 12 XTAL2, 13 P0.0/TXD0/PWM1, 14 P0.1/RXD0/PWM3, 15 P0.30/TRACEPKT3/TDI, 16 P0.31/EXTIN0/TDO, 17 40 VDD(3V3) (power), 18 P0.2/SCL0/CAP0.0, 21 P0.3/SDA0/MAT0.0, 22 P0.4/SCK/CAP0.1, 23 P0.5/MISO/MAT0.1, 24 P0.6/MOSI/CAP0.2, 26 RTCK, 27 DBGSEL, 28 P0.7/SSEL/PWM2, 29 P0.8/TXD1/PWM4, 30 P0.9/RXD1/PWM6, 32 P0.22/TRACECLK, 33 P0.23/PIPESTAT0, 34 P0.24/PIPESTAT1, 35 P0.10/RTS1/CAP1.0, 36 P0.11/CTS1/CAP1.1, 37 P0.12/DSR1/MAT1.0, 38 P0.25/PIPESTAT2, 39 P0.26/TRACESYNC, 41 P0.13/DTR1/MAT1.1, 44 P0.14/DCD1/EINT1, 45 P0.15/RI1/EINT2, 46 P0.16/EINT0/MAT0.2, 47 P0.17/CAP1.2/!TRST!, 48 P0.18/CAP1.3/TMS

## LPC2106FHN48
designator U?, comment Single-chip 32-bit microcontrollers; 128 kB ISP/IAP ﬂash with 16/32/64 kB RAM The UART are based on a 16/32-bit ARM7TDMI-S CPU with real-time emulation and embedded trace support, together with 128 kB of embedded high speed ﬂash memory. A 128-bit wide memory interface and a unique accelerator architecture enable 32-bit code execution at maximum clock rate. For critical code size applications, the alternative 16-bit Thumb mode reduces code by more than 30 % with minimal performance penalty. Due to their tiny size and low power consumption, these microcontrollers are ideal for applications where miniaturization is a key requirement, such as access control and point-of-sale. With a wide range of serial communications interfaces and on-chip SRAM options up to 64 kB, they are very well suited for communication gateways and protocol converters, soft modems, voice recognition and low end imaging, providing both large buffer size and high processing power. Various 32-bit timers, PWM channels, and 32 GPIO lines make these microcontrollers particularly suitable for industrial control and medical systems. Remark: Throughout the data sheet, the term LPC2104/2105/2106 will apply to devices with and without /00 and /01 sufﬁxes. Sufﬁxes will be used to differentiate devices whenever they include new features.    AAL Eindhoven MK
FLASH: 128kB; RANGE: -40~+85C; SRAM: 64kB
footprint SOT619-1
pins: 1 P0.19/MAT1.2/TCK, 2 P0.20/MAT1.3/TDI, 3 P0.21/PWM5/TDO, 5 VDD(1V8) (power), 6 !RESET!, 7 19 31 43 VSS (power), 8 P0.27/TRACEPKT0/!TRST!, 9 P0.28/TRACEPKT1/TMS, 10 P0.29/TRACEPKT2/TCK, 11 XTAL1, 12 XTAL2, 13 P0.0/TXD0/PWM1, 14 P0.1/RXD0/PWM3, 15 P0.30/TRACEPKT3/TDI, 16 P0.31/EXTIN0/TDO, 17 40 VDD(3V3) (power), 18 P0.2/SCL0/CAP0.0, 21 P0.3/SDA0/MAT0.0, 22 P0.4/SCK/CAP0.1, 23 P0.5/MISO/MAT0.1, 24 P0.6/MOSI/CAP0.2, 26 RTCK, 27 DBGSEL, 28 P0.7/SSEL/PWM2, 29 P0.8/TXD1/PWM4, 30 P0.9/RXD1/PWM6, 32 P0.22/TRACECLK, 33 P0.23/PIPESTAT0, 34 P0.24/PIPESTAT1, 35 P0.10/RTS1/CAP1.0, 36 P0.11/CTS1/CAP1.1, 37 P0.12/DSR1/MAT1.0, 38 P0.25/PIPESTAT2, 39 P0.26/TRACESYNC, 41 P0.13/DTR1/MAT1.1, 44 P0.14/DCD1/EINT1, 45 P0.15/RI1/EINT2, 46 P0.16/EINT0/MAT0.2, 47 P0.17/CAP1.2/!TRST!, 48 P0.18/CAP1.3/TMS

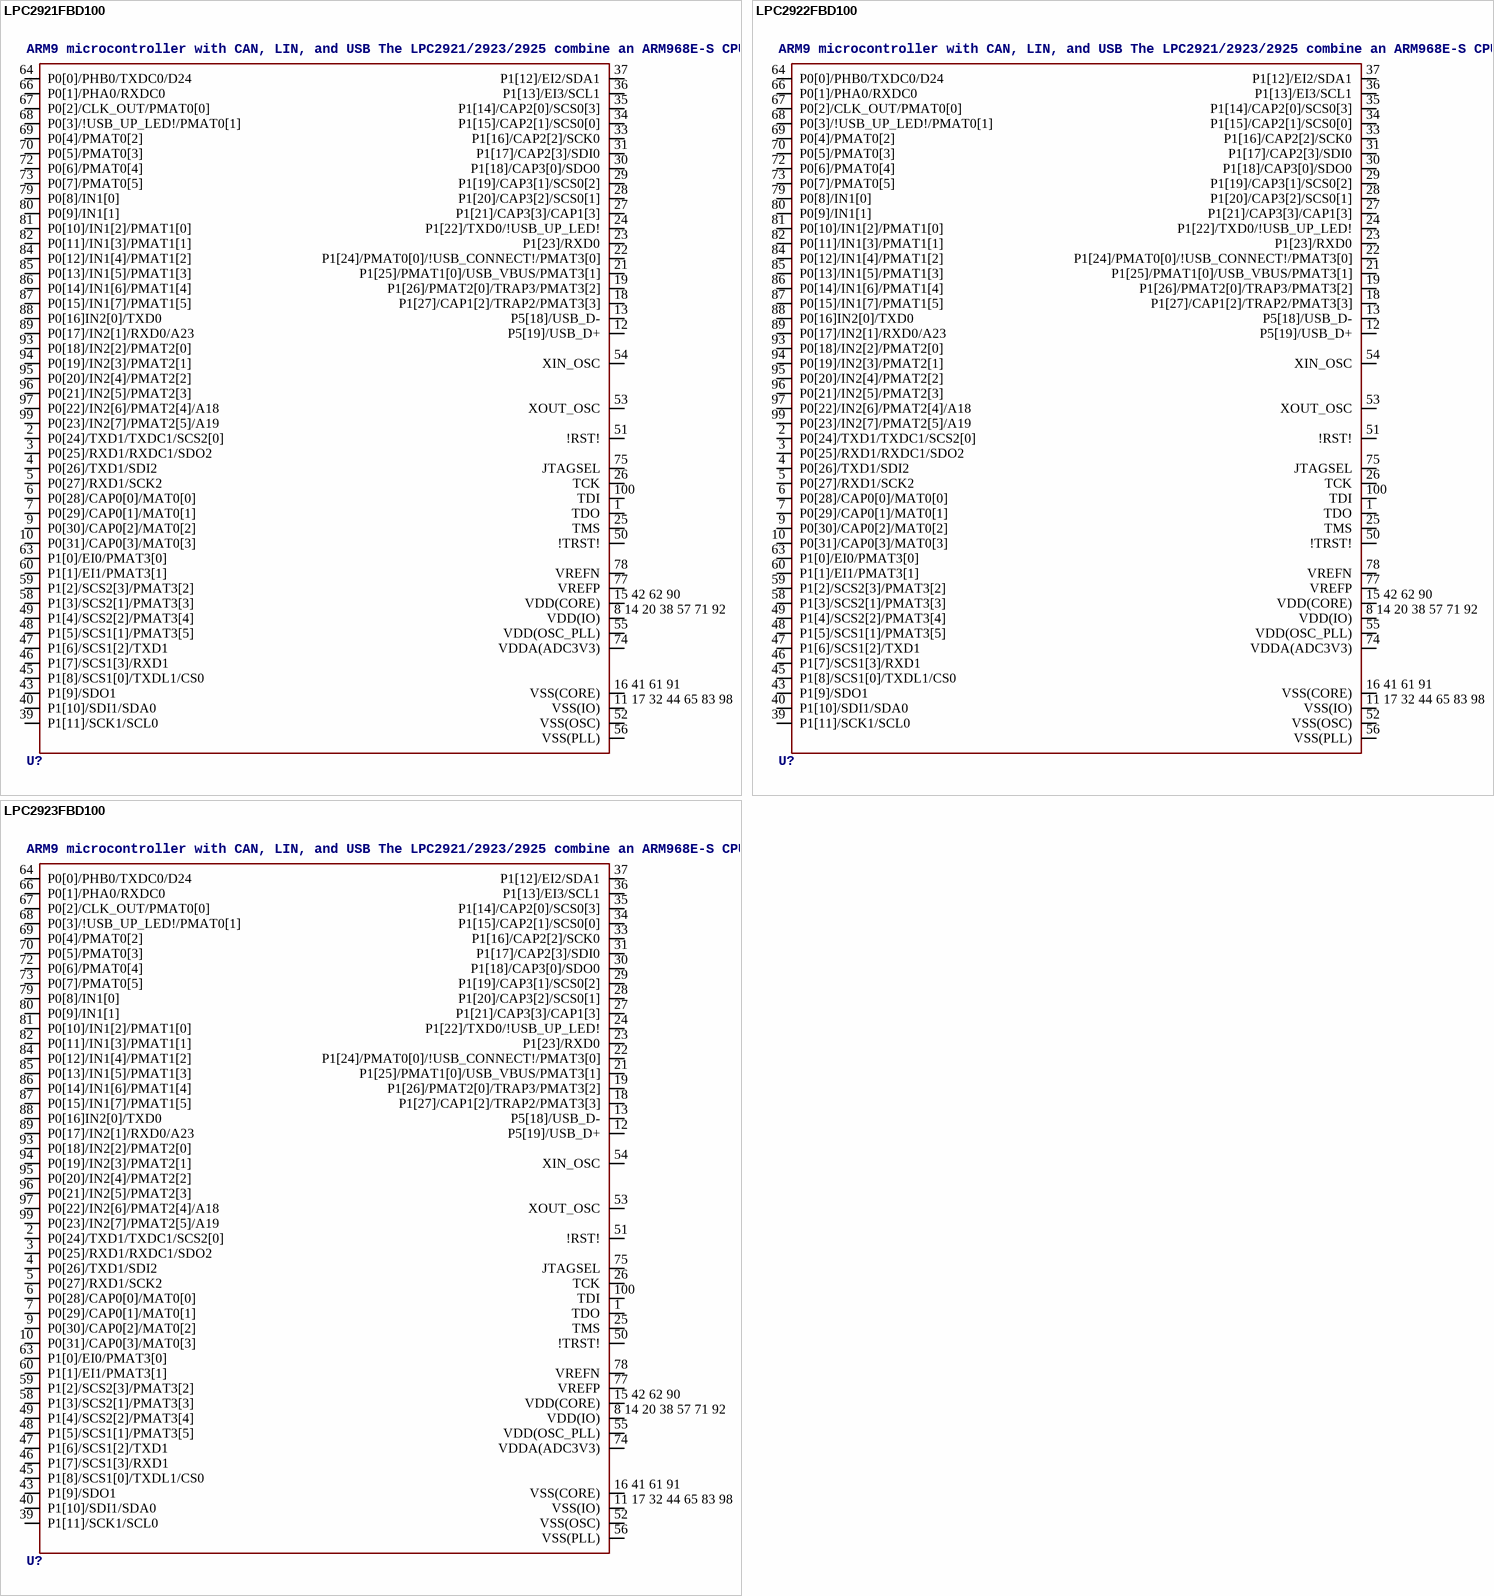
[diagram p112: symbols LPC2921FBD100 to LPC2923FBD100]

## LPC2921FBD100
designator U?, comment ARM9 microcontroller with CAN, LIN, and USB The LPC2921/2923/2925 combine an ARM968E-S CPU core with two integrated TCM blocks operating at frequencies of up to 125 MHz, Full-speed USB 2.0 device controller, CAN and LIN, up to 40 kB SRAM, up to 512 kB flash memory, two 10-bit ADCs, and multiple serial and parallel interfaces in a single chip targeted at consumer, industrial, and communication markets. To optimize system power consumption, the LPC2921/2923/2925 has a very flexible Clock Generation Unit (CGU) that provides dynamic clock gating and scaling.    AAL Eindhoven MK
FLASH: 128kB; SRAM: 24kB
footprint SOT407-1
pins: 1 TDO, 2 P0[24]/TXD1/TXDC1/SCS2[0], 3 P0[25]/RXD1/RXDC1/SDO2, 4 P0[26]/TXD1/SDI2, 5 P0[27]/RXD1/SCK2, 6 P0[28]/CAP0[0]/MAT0[0], 7 P0[29]/CAP0[1]/MAT0[1], 8 14 20 38 57 71 92 VDD(IO), 9 P0[30]/CAP0[2]/MAT0[2], 10 P0[31]/CAP0[3]/MAT0[3], 11 17 32 44 65 83 98 VSS(IO), 12 P5[19]/USB_D+, 13 P5[18]/USB_D-, 15 42 62 90 VDD(CORE), 16 41 61 91 VSS(CORE), 18 P1[27]/CAP1[2]/TRAP2/PMAT3[3], 19 P1[26]/PMAT2[0]/TRAP3/PMAT3[2], 21 P1[25]/PMAT1[0]/USB_VBUS/PMAT3[1], 22 P1[24]/PMAT0[0]/!USB_CONNECT!/PMAT3[0], 23 P1[23]/RXD0, 24 P1[22]/TXD0/!USB_UP_LED!, 25 TMS, 26 TCK, 27 P1[21]/CAP3[3]/CAP1[3], 28 P1[20]/CAP3[2]/SCS0[1], 29 P1[19]/CAP3[1]/SCS0[2], 30 P1[18]/CAP3[0]/SDO0, 31 P1[17]/CAP2[3]/SDI0, 33 P1[16]/CAP2[2]/SCK0, 34 P1[15]/CAP2[1]/SCS0[0], 35 P1[14]/CAP2[0]/SCS0[3], 36 P1[13]/EI3/SCL1, 37 P1[12]/EI2/SDA1, 39 P1[11]/SCK1/SCL0, 40 P1[10]/SDI1/SDA0, 43 P1[9]/SDO1, 45 P1[8]/SCS1[0]/TXDL1/CS0, 46 P1[7]/SCS1[3]/RXD1, 47 P1[6]/SCS1[2]/TXD1, 48 P1[5]/SCS1[1]/PMAT3[5], 49 P1[4]/SCS2[2]/PMAT3[4], 50 !TRST!, 51 !RST!, 52 VSS(OSC), 53 XOUT_OSC, 54 XIN_OSC, 55 VDD(OSC_PLL), 56 VSS(PLL), 58 P1[3]/SCS2[1]/PMAT3[3], 59 P1[2]/SCS2[3]/PMAT3[2], 60 P1[1]/EI1/PMAT3[1], 63 P1[0]/EI0/PMAT3[0], 64 P0[0]/PHB0/TXDC0/D24, 66 P0[1]/PHA0/RXDC0, 67 P0[2]/CLK_OUT/PMAT0[0], 68 P0[3]/!USB_UP_LED!/PMAT0[1], 69 P0[4]/PMAT0[2], 70 P0[5]/PMAT0[3], 72 P0[6]/PMAT0[4], 73 P0[7]/PMAT0[5], 74 VDDA(ADC3V3), 75 JTAGSEL, 77 VREFP, 78 VREFN, 79 P0[8]/IN1[0], 80 P0[9]/IN1[1], 81 P0[10]/IN1[2]/PMAT1[0], 82 P0[11]/IN1[3]/PMAT1[1], 84 P0[12]/IN1[4]/PMAT1[2], 85 P0[13]/IN1[5]/PMAT1[3], 86 P0[14]/IN1[6]/PMAT1[4], 87 P0[15]/IN1[7]/PMAT1[5], 88 P0[16]IN2[0]/TXD0, 89 P0[17]/IN2[1]/RXD0/A23, 93 P0[18]/IN2[2]/PMAT2[0], 94 P0[19]/IN2[3]/PMAT2[1], 95 P0[20]/IN2[4]/PMAT2[2], 96 P0[21]/IN2[5]/PMAT2[3], 97 P0[22]/IN2[6]/PMAT2[4]/A18, 99 P0[23]/IN2[7]/PMAT2[5]/A19, 100 TDI

## LPC2922FBD100
designator U?, comment ARM9 microcontroller with CAN, LIN, and USB The LPC2921/2923/2925 combine an ARM968E-S CPU core with two integrated TCM blocks operating at frequencies of up to 125 MHz, Full-speed USB 2.0 device controller, CAN and LIN, up to 40 kB SRAM, up to 512 kB flash memory, two 10-bit ADCs, and multiple serial and parallel interfaces in a single chip targeted at consumer, industrial, and communication markets. To optimize system power consumption, the LPC2921/2923/2925 has a very flexible Clock Generation Unit (CGU) that provides dynamic clock gating and scaling.    AAL Eindhoven MK
FLASH: 256kB; SRAM: 24kB
footprint SOT407-1
pins: 1 TDO, 2 P0[24]/TXD1/TXDC1/SCS2[0], 3 P0[25]/RXD1/RXDC1/SDO2, 4 P0[26]/TXD1/SDI2, 5 P0[27]/RXD1/SCK2, 6 P0[28]/CAP0[0]/MAT0[0], 7 P0[29]/CAP0[1]/MAT0[1], 8 14 20 38 57 71 92 VDD(IO), 9 P0[30]/CAP0[2]/MAT0[2], 10 P0[31]/CAP0[3]/MAT0[3], 11 17 32 44 65 83 98 VSS(IO), 12 P5[19]/USB_D+, 13 P5[18]/USB_D-, 15 42 62 90 VDD(CORE), 16 41 61 91 VSS(CORE), 18 P1[27]/CAP1[2]/TRAP2/PMAT3[3], 19 P1[26]/PMAT2[0]/TRAP3/PMAT3[2], 21 P1[25]/PMAT1[0]/USB_VBUS/PMAT3[1], 22 P1[24]/PMAT0[0]/!USB_CONNECT!/PMAT3[0], 23 P1[23]/RXD0, 24 P1[22]/TXD0/!USB_UP_LED!, 25 TMS, 26 TCK, 27 P1[21]/CAP3[3]/CAP1[3], 28 P1[20]/CAP3[2]/SCS0[1], 29 P1[19]/CAP3[1]/SCS0[2], 30 P1[18]/CAP3[0]/SDO0, 31 P1[17]/CAP2[3]/SDI0, 33 P1[16]/CAP2[2]/SCK0, 34 P1[15]/CAP2[1]/SCS0[0], 35 P1[14]/CAP2[0]/SCS0[3], 36 P1[13]/EI3/SCL1, 37 P1[12]/EI2/SDA1, 39 P1[11]/SCK1/SCL0, 40 P1[10]/SDI1/SDA0, 43 P1[9]/SDO1, 45 P1[8]/SCS1[0]/TXDL1/CS0, 46 P1[7]/SCS1[3]/RXD1, 47 P1[6]/SCS1[2]/TXD1, 48 P1[5]/SCS1[1]/PMAT3[5], 49 P1[4]/SCS2[2]/PMAT3[4], 50 !TRST!, 51 !RST!, 52 VSS(OSC), 53 XOUT_OSC, 54 XIN_OSC, 55 VDD(OSC_PLL), 56 VSS(PLL), 58 P1[3]/SCS2[1]/PMAT3[3], 59 P1[2]/SCS2[3]/PMAT3[2], 60 P1[1]/EI1/PMAT3[1], 63 P1[0]/EI0/PMAT3[0], 64 P0[0]/PHB0/TXDC0/D24, 66 P0[1]/PHA0/RXDC0, 67 P0[2]/CLK_OUT/PMAT0[0], 68 P0[3]/!USB_UP_LED!/PMAT0[1], 69 P0[4]/PMAT0[2], 70 P0[5]/PMAT0[3], 72 P0[6]/PMAT0[4], 73 P0[7]/PMAT0[5], 74 VDDA(ADC3V3), 75 JTAGSEL, 77 VREFP, 78 VREFN, 79 P0[8]/IN1[0], 80 P0[9]/IN1[1], 81 P0[10]/IN1[2]/PMAT1[0], 82 P0[11]/IN1[3]/PMAT1[1], 84 P0[12]/IN1[4]/PMAT1[2], 85 P0[13]/IN1[5]/PMAT1[3], 86 P0[14]/IN1[6]/PMAT1[4], 87 P0[15]/IN1[7]/PMAT1[5], 88 P0[16]IN2[0]/TXD0, 89 P0[17]/IN2[1]/RXD0/A23, 93 P0[18]/IN2[2]/PMAT2[0], 94 P0[19]/IN2[3]/PMAT2[1], 95 P0[20]/IN2[4]/PMAT2[2], 96 P0[21]/IN2[5]/PMAT2[3], 97 P0[22]/IN2[6]/PMAT2[4]/A18, 99 P0[23]/IN2[7]/PMAT2[5]/A19, 100 TDI

## LPC2923FBD100
designator U?, comment ARM9 microcontroller with CAN, LIN, and USB The LPC2921/2923/2925 combine an ARM968E-S CPU core with two integrated TCM blocks operating at frequencies of up to 125 MHz, Full-speed USB 2.0 device controller, CAN and LIN, up to 40 kB SRAM, up to 512 kB flash memory, two 10-bit ADCs, and multiple serial and parallel interfaces in a single chip targeted at consumer, industrial, and communication markets. To optimize system power consumption, the LPC2921/2923/2925 has a very flexible Clock Generation Unit (CGU) that provides dynamic clock gating and scaling.    AAL Eindhoven MK
FLASH: 512kB; SRAM: 40kB
footprint SOT407-1
pins: 1 TDO, 2 P0[24]/TXD1/TXDC1/SCS2[0], 3 P0[25]/RXD1/RXDC1/SDO2, 4 P0[26]/TXD1/SDI2, 5 P0[27]/RXD1/SCK2, 6 P0[28]/CAP0[0]/MAT0[0], 7 P0[29]/CAP0[1]/MAT0[1], 8 14 20 38 57 71 92 VDD(IO), 9 P0[30]/CAP0[2]/MAT0[2], 10 P0[31]/CAP0[3]/MAT0[3], 11 17 32 44 65 83 98 VSS(IO), 12 P5[19]/USB_D+, 13 P5[18]/USB_D-, 15 42 62 90 VDD(CORE), 16 41 61 91 VSS(CORE), 18 P1[27]/CAP1[2]/TRAP2/PMAT3[3], 19 P1[26]/PMAT2[0]/TRAP3/PMAT3[2], 21 P1[25]/PMAT1[0]/USB_VBUS/PMAT3[1], 22 P1[24]/PMAT0[0]/!USB_CONNECT!/PMAT3[0], 23 P1[23]/RXD0, 24 P1[22]/TXD0/!USB_UP_LED!, 25 TMS, 26 TCK, 27 P1[21]/CAP3[3]/CAP1[3], 28 P1[20]/CAP3[2]/SCS0[1], 29 P1[19]/CAP3[1]/SCS0[2], 30 P1[18]/CAP3[0]/SDO0, 31 P1[17]/CAP2[3]/SDI0, 33 P1[16]/CAP2[2]/SCK0, 34 P1[15]/CAP2[1]/SCS0[0], 35 P1[14]/CAP2[0]/SCS0[3], 36 P1[13]/EI3/SCL1, 37 P1[12]/EI2/SDA1, 39 P1[11]/SCK1/SCL0, 40 P1[10]/SDI1/SDA0, 43 P1[9]/SDO1, 45 P1[8]/SCS1[0]/TXDL1/CS0, 46 P1[7]/SCS1[3]/RXD1, 47 P1[6]/SCS1[2]/TXD1, 48 P1[5]/SCS1[1]/PMAT3[5], 49 P1[4]/SCS2[2]/PMAT3[4], 50 !TRST!, 51 !RST!, 52 VSS(OSC), 53 XOUT_OSC, 54 XIN_OSC, 55 VDD(OSC_PLL), 56 VSS(PLL), 58 P1[3]/SCS2[1]/PMAT3[3], 59 P1[2]/SCS2[3]/PMAT3[2], 60 P1[1]/EI1/PMAT3[1], 63 P1[0]/EI0/PMAT3[0], 64 P0[0]/PHB0/TXDC0/D24, 66 P0[1]/PHA0/RXDC0, 67 P0[2]/CLK_OUT/PMAT0[0], 68 P0[3]/!USB_UP_LED!/PMAT0[1], 69 P0[4]/PMAT0[2], 70 P0[5]/PMAT0[3], 72 P0[6]/PMAT0[4], 73 P0[7]/PMAT0[5], 74 VDDA(ADC3V3), 75 JTAGSEL, 77 VREFP, 78 VREFN, 79 P0[8]/IN1[0], 80 P0[9]/IN1[1], 81 P0[10]/IN1[2]/PMAT1[0], 82 P0[11]/IN1[3]/PMAT1[1], 84 P0[12]/IN1[4]/PMAT1[2], 85 P0[13]/IN1[5]/PMAT1[3], 86 P0[14]/IN1[6]/PMAT1[4], 87 P0[15]/IN1[7]/PMAT1[5], 88 P0[16]IN2[0]/TXD0, 89 P0[17]/IN2[1]/RXD0/A23, 93 P0[18]/IN2[2]/PMAT2[0], 94 P0[19]/IN2[3]/PMAT2[1], 95 P0[20]/IN2[4]/PMAT2[2], 96 P0[21]/IN2[5]/PMAT2[3], 97 P0[22]/IN2[6]/PMAT2[4]/A18, 99 P0[23]/IN2[7]/PMAT2[5]/A19, 100 TDI

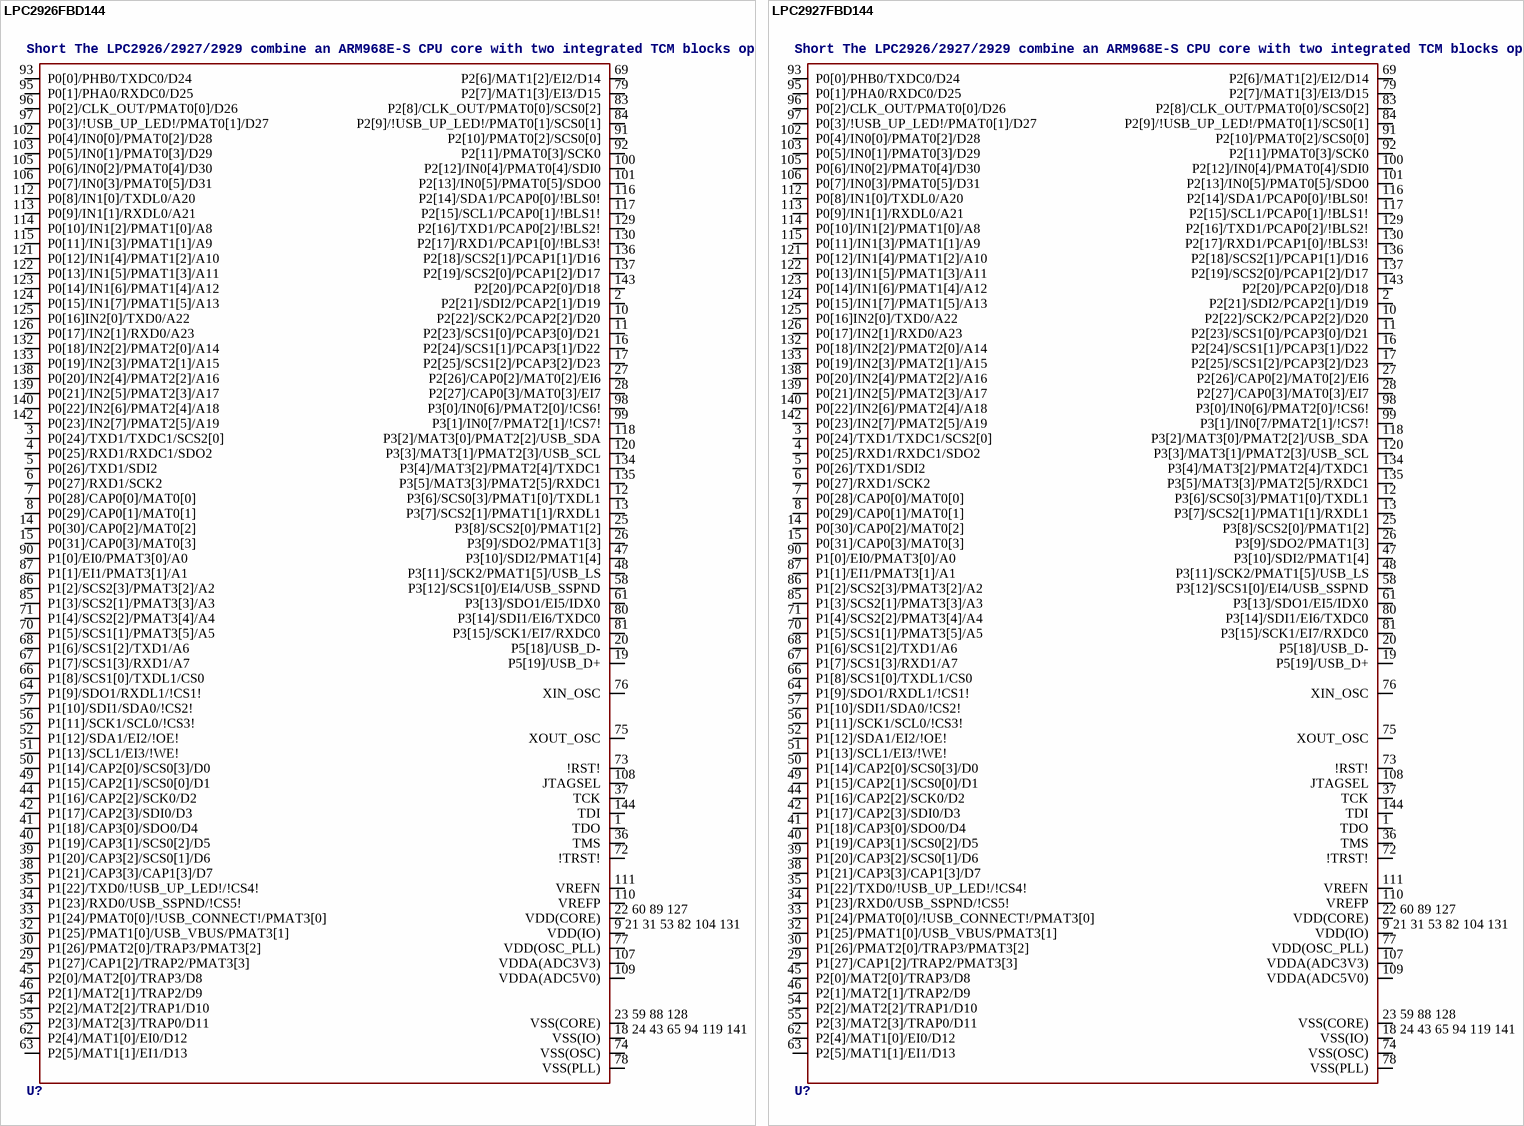
[diagram p113: symbols LPC2926FBD144 to LPC2927FBD144]

## LPC2926FBD144
designator U?, comment Short The LPC2926/2927/2929 combine an ARM968E-S CPU core with two integrated TCM blocks operating at frequencies of up to 125 MHz, Full-speed USB 2.0 OTG and device controller, CAN and LIN, 56 kB SRAM, up to 768 kB flash memory, external memory interface, three 10-bit ADCs, and multiple serial and parallel interfaces in a single chip targeted at consumer, industrial and communication markets. To optimize system power consumption, the LPC2926/2927/2929 has a very flexible Clock Generation Unit (CGU) that provides dynamic clock gating and scaling.    AAL Eindhoven MK
FLASH: 256kB; SRAM: 56kB + 2 × 32kB TCM
footprint SOT486-1
pins: 1 TDO, 2 P2[21]/SDI2/PCAP2[1]/D19, 3 P0[24]/TXD1/TXDC1/SCS2[0], 4 P0[25]/RXD1/RXDC1/SDO2, 5 P0[26]/TXD1/SDI2, 6 P0[27]/RXD1/SCK2, 7 P0[28]/CAP0[0]/MAT0[0], 8 P0[29]/CAP0[1]/MAT0[1], 9 21 31 53 82 104 131 VDD(IO), 10 P2[22]/SCK2/PCAP2[2]/D20, 11 P2[23]/SCS1[0]/PCAP3[0]/D21, 12 P3[6]/SCS0[3]/PMAT1[0]/TXDL1, 13 P3[7]/SCS2[1]/PMAT1[1]/RXDL1, 14 P0[30]/CAP0[2]/MAT0[2], 15 P0[31]/CAP0[3]/MAT0[3], 16 P2[24]/SCS1[1]/PCAP3[1]/D22, 17 P2[25]/SCS1[2]/PCAP3[2]/D23, 18 24 43 65 94 119 141 VSS(IO), 19 P5[19]/USB_D+, 20 P5[18]/USB_D-, 22 60 89 127 VDD(CORE), 23 59 88 128 VSS(CORE), 25 P3[8]/SCS2[0]/PMAT1[2], 26 P3[9]/SDO2/PMAT1[3], 27 P2[26]/CAP0[2]/MAT0[2]/EI6, 28 P2[27]/CAP0[3]/MAT0[3]/EI7, 29 P1[27]/CAP1[2]/TRAP2/PMAT3[3], 30 P1[26]/PMAT2[0]/TRAP3/PMAT3[2], 32 P1[25]/PMAT1[0]/USB_VBUS/PMAT3[1], 33 P1[24]/PMAT0[0]/!USB_CONNECT!/PMAT3[0], 34 P1[23]/RXD0/USB_SSPND/!CS5!, 35 P1[22]/TXD0/!USB_UP_LED!/!CS4!, 36 TMS, 37 TCK, 38 P1[21]/CAP3[3]/CAP1[3]/D7, 39 P1[20]/CAP3[2]/SCS0[1]/D6, 40 P1[19]/CAP3[1]/SCS0[2]/D5, 41 P1[18]/CAP3[0]/SDO0/D4, 42 P1[17]/CAP2[3]/SDI0/D3, 44 P1[16]/CAP2[2]/SCK0/D2, 45 P2[0]/MAT2[0]/TRAP3/D8, 46 P2[1]/MAT2[1]/TRAP2/D9, 47 P3[10]/SDI2/PMAT1[4], 48 P3[11]/SCK2/PMAT1[5]/USB_LS, 49 P1[15]/CAP2[1]/SCS0[0]/D1, 50 P1[14]/CAP2[0]/SCS0[3]/D0, 51 P1[13]/SCL1/EI3/!WE!, 52 P1[12]/SDA1/EI2/!OE!, 54 P2[2]/MAT2[2]/TRAP1/D10, 55 P2[3]/MAT2[3]/TRAP0/D11, 56 P1[11]/SCK1/SCL0/!CS3!, 57 P1[10]/SDI1/SDA0/!CS2!, 58 P3[12]/SCS1[0]/EI4/USB_SSPND, 61 P3[13]/SDO1/EI5/IDX0, 62 P2[4]/MAT1[0]/EI0/D12, 63 P2[5]/MAT1[1]/EI1/D13, 64 P1[9]/SDO1/RXDL1/!CS1!, 66 P1[8]/SCS1[0]/TXDL1/CS0, 67 P1[7]/SCS1[3]/RXD1/A7, 68 P1[6]/SCS1[2]/TXD1/A6, 69 P2[6]/MAT1[2]/EI2/D14, 70 P1[5]/SCS1[1]/PMAT3[5]/A5, 71 P1[4]/SCS2[2]/PMAT3[4]/A4, 72 !TRST!, 73 !RST!, 74 VSS(OSC), 75 XOUT_OSC, 76 XIN_OSC, 77 VDD(OSC_PLL), 78 VSS(PLL), 79 P2[7]/MAT1[3]/EI3/D15, 80 P3[14]/SDI1/EI6/TXDC0, 81 P3[15]/SCK1/EI7/RXDC0, 83 P2[8]/CLK_OUT/PMAT0[0]/SCS0[2], 84 P2[9]/!USB_UP_LED!/PMAT0[1]/SCS0[1], 85 P1[3]/SCS2[1]/PMAT3[3]/A3, 86 P1[2]/SCS2[3]/PMAT3[2]/A2, 87 P1[1]/EI1/PMAT3[1]/A1, 90 P1[0]/EI0/PMAT3[0]/A0, 91 P2[10]/PMAT0[2]/SCS0[0], 92 P2[11]/PMAT0[3]/SCK0, 93 P0[0]/PHB0/TXDC0/D24, 95 P0[1]/PHA0/RXDC0/D25, 96 P0[2]/CLK_OUT/PMAT0[0]/D26, 97 P0[3]/!USB_UP_LED!/PMAT0[1]/D27, 98 P3[0]/IN0[6]/PMAT2[0]/!CS6!, 99 P3[1]/IN0[7/PMAT2[1]/!CS7!, 100 P2[12]/IN0[4]/PMAT0[4]/SDI0, 101 P2[13]/IN0[5]/PMAT0[5]/SDO0, 102 P0[4]/IN0[0]/PMAT0[2]/D28, 103 P0[5]/IN0[1]/PMAT0[3]/D29, 105 P0[6]/IN0[2]/PMAT0[4]/D30, 106 P0[7]/IN0[3]/PMAT0[5]/D31, 107 VDDA(ADC3V3), 108 JTAGSEL, 109 VDDA(ADC5V0), 110 VREFP, 111 VREFN, 112 P0[8]/IN1[0]/TXDL0/A20, 113 P0[9]/IN1[1]/RXDL0/A21, 114 P0[10]/IN1[2]/PMAT1[0]/A8, 115 P0[11]/IN1[3]/PMAT1[1]/A9, 116 P2[14]/SDA1/PCAP0[0]/!BLS0!, 117 P2[15]/SCL1/PCAP0[1]/!BLS1!, 118 P3[2]/MAT3[0]/PMAT2[2]/USB_SDA, 120 P3[3]/MAT3[1]/PMAT2[3]/USB_SCL, 121 P0[12]/IN1[4]/PMAT1[2]/A10, 122 P0[13]/IN1[5]/PMAT1[3]/A11, 123 P0[14]/IN1[6]/PMAT1[4]/A12, 124 P0[15]/IN1[7]/PMAT1[5]/A13, 125 P0[16]IN2[0]/TXD0/A22, 126 P0[17]/IN2[1]/RXD0/A23, 129 P2[16]/TXD1/PCAP0[2]/!BLS2!, 130 P2[17]/RXD1/PCAP1[0]/!BLS3!, 132 P0[18]/IN2[2]/PMAT2[0]/A14, 133 P0[19]/IN2[3]/PMAT2[1]/A15, 134 P3[4]/MAT3[2]/PMAT2[4]/TXDC1, 135 P3[5]/MAT3[3]/PMAT2[5]/RXDC1, 136 P2[18]/SCS2[1]/PCAP1[1]/D16, 137 P2[19]/SCS2[0]/PCAP1[2]/D17, 138 P0[20]/IN2[4]/PMAT2[2]/A16, 139 P0[21]/IN2[5]/PMAT2[3]/A17, 140 P0[22]/IN2[6]/PMAT2[4]/A18, 142 P0[23]/IN2[7]/PMAT2[5]/A19, 143 P2[20]/PCAP2[0]/D18, 144 TDI

## LPC2927FBD144
designator U?, comment Short The LPC2926/2927/2929 combine an ARM968E-S CPU core with two integrated TCM blocks operating at frequencies of up to 125 MHz, Full-speed USB 2.0 OTG and device controller, CAN and LIN, 56 kB SRAM, up to 768 kB flash memory, external memory interface, three 10-bit ADCs, and multiple serial and parallel interfaces in a single chip targeted at consumer, industrial and communication markets. To optimize system power consumption, the LPC2926/2927/2929 has a very flexible Clock Generation Unit (CGU) that provides dynamic clock gating and scaling.    AAL Eindhoven MK
FLASH: 512kB; SRAM: 56kB + 2 × 32kB TCM
footprint SOT486-1
pins: 1 TDO, 2 P2[21]/SDI2/PCAP2[1]/D19, 3 P0[24]/TXD1/TXDC1/SCS2[0], 4 P0[25]/RXD1/RXDC1/SDO2, 5 P0[26]/TXD1/SDI2, 6 P0[27]/RXD1/SCK2, 7 P0[28]/CAP0[0]/MAT0[0], 8 P0[29]/CAP0[1]/MAT0[1], 9 21 31 53 82 104 131 VDD(IO), 10 P2[22]/SCK2/PCAP2[2]/D20, 11 P2[23]/SCS1[0]/PCAP3[0]/D21, 12 P3[6]/SCS0[3]/PMAT1[0]/TXDL1, 13 P3[7]/SCS2[1]/PMAT1[1]/RXDL1, 14 P0[30]/CAP0[2]/MAT0[2], 15 P0[31]/CAP0[3]/MAT0[3], 16 P2[24]/SCS1[1]/PCAP3[1]/D22, 17 P2[25]/SCS1[2]/PCAP3[2]/D23, 18 24 43 65 94 119 141 VSS(IO), 19 P5[19]/USB_D+, 20 P5[18]/USB_D-, 22 60 89 127 VDD(CORE), 23 59 88 128 VSS(CORE), 25 P3[8]/SCS2[0]/PMAT1[2], 26 P3[9]/SDO2/PMAT1[3], 27 P2[26]/CAP0[2]/MAT0[2]/EI6, 28 P2[27]/CAP0[3]/MAT0[3]/EI7, 29 P1[27]/CAP1[2]/TRAP2/PMAT3[3], 30 P1[26]/PMAT2[0]/TRAP3/PMAT3[2], 32 P1[25]/PMAT1[0]/USB_VBUS/PMAT3[1], 33 P1[24]/PMAT0[0]/!USB_CONNECT!/PMAT3[0], 34 P1[23]/RXD0/USB_SSPND/!CS5!, 35 P1[22]/TXD0/!USB_UP_LED!/!CS4!, 36 TMS, 37 TCK, 38 P1[21]/CAP3[3]/CAP1[3]/D7, 39 P1[20]/CAP3[2]/SCS0[1]/D6, 40 P1[19]/CAP3[1]/SCS0[2]/D5, 41 P1[18]/CAP3[0]/SDO0/D4, 42 P1[17]/CAP2[3]/SDI0/D3, 44 P1[16]/CAP2[2]/SCK0/D2, 45 P2[0]/MAT2[0]/TRAP3/D8, 46 P2[1]/MAT2[1]/TRAP2/D9, 47 P3[10]/SDI2/PMAT1[4], 48 P3[11]/SCK2/PMAT1[5]/USB_LS, 49 P1[15]/CAP2[1]/SCS0[0]/D1, 50 P1[14]/CAP2[0]/SCS0[3]/D0, 51 P1[13]/SCL1/EI3/!WE!, 52 P1[12]/SDA1/EI2/!OE!, 54 P2[2]/MAT2[2]/TRAP1/D10, 55 P2[3]/MAT2[3]/TRAP0/D11, 56 P1[11]/SCK1/SCL0/!CS3!, 57 P1[10]/SDI1/SDA0/!CS2!, 58 P3[12]/SCS1[0]/EI4/USB_SSPND, 61 P3[13]/SDO1/EI5/IDX0, 62 P2[4]/MAT1[0]/EI0/D12, 63 P2[5]/MAT1[1]/EI1/D13, 64 P1[9]/SDO1/RXDL1/!CS1!, 66 P1[8]/SCS1[0]/TXDL1/CS0, 67 P1[7]/SCS1[3]/RXD1/A7, 68 P1[6]/SCS1[2]/TXD1/A6, 69 P2[6]/MAT1[2]/EI2/D14, 70 P1[5]/SCS1[1]/PMAT3[5]/A5, 71 P1[4]/SCS2[2]/PMAT3[4]/A4, 72 !TRST!, 73 !RST!, 74 VSS(OSC), 75 XOUT_OSC, 76 XIN_OSC, 77 VDD(OSC_PLL), 78 VSS(PLL), 79 P2[7]/MAT1[3]/EI3/D15, 80 P3[14]/SDI1/EI6/TXDC0, 81 P3[15]/SCK1/EI7/RXDC0, 83 P2[8]/CLK_OUT/PMAT0[0]/SCS0[2], 84 P2[9]/!USB_UP_LED!/PMAT0[1]/SCS0[1], 85 P1[3]/SCS2[1]/PMAT3[3]/A3, 86 P1[2]/SCS2[3]/PMAT3[2]/A2, 87 P1[1]/EI1/PMAT3[1]/A1, 90 P1[0]/EI0/PMAT3[0]/A0, 91 P2[10]/PMAT0[2]/SCS0[0], 92 P2[11]/PMAT0[3]/SCK0, 93 P0[0]/PHB0/TXDC0/D24, 95 P0[1]/PHA0/RXDC0/D25, 96 P0[2]/CLK_OUT/PMAT0[0]/D26, 97 P0[3]/!USB_UP_LED!/PMAT0[1]/D27, 98 P3[0]/IN0[6]/PMAT2[0]/!CS6!, 99 P3[1]/IN0[7/PMAT2[1]/!CS7!, 100 P2[12]/IN0[4]/PMAT0[4]/SDI0, 101 P2[13]/IN0[5]/PMAT0[5]/SDO0, 102 P0[4]/IN0[0]/PMAT0[2]/D28, 103 P0[5]/IN0[1]/PMAT0[3]/D29, 105 P0[6]/IN0[2]/PMAT0[4]/D30, 106 P0[7]/IN0[3]/PMAT0[5]/D31, 107 VDDA(ADC3V3), 108 JTAGSEL, 109 VDDA(ADC5V0), 110 VREFP, 111 VREFN, 112 P0[8]/IN1[0]/TXDL0/A20, 113 P0[9]/IN1[1]/RXDL0/A21, 114 P0[10]/IN1[2]/PMAT1[0]/A8, 115 P0[11]/IN1[3]/PMAT1[1]/A9, 116 P2[14]/SDA1/PCAP0[0]/!BLS0!, 117 P2[15]/SCL1/PCAP0[1]/!BLS1!, 118 P3[2]/MAT3[0]/PMAT2[2]/USB_SDA, 120 P3[3]/MAT3[1]/PMAT2[3]/USB_SCL, 121 P0[12]/IN1[4]/PMAT1[2]/A10, 122 P0[13]/IN1[5]/PMAT1[3]/A11, 123 P0[14]/IN1[6]/PMAT1[4]/A12, 124 P0[15]/IN1[7]/PMAT1[5]/A13, 125 P0[16]IN2[0]/TXD0/A22, 126 P0[17]/IN2[1]/RXD0/A23, 129 P2[16]/TXD1/PCAP0[2]/!BLS2!, 130 P2[17]/RXD1/PCAP1[0]/!BLS3!, 132 P0[18]/IN2[2]/PMAT2[0]/A14, 133 P0[19]/IN2[3]/PMAT2[1]/A15, 134 P3[4]/MAT3[2]/PMAT2[4]/TXDC1, 135 P3[5]/MAT3[3]/PMAT2[5]/RXDC1, 136 P2[18]/SCS2[1]/PCAP1[1]/D16, 137 P2[19]/SCS2[0]/PCAP1[2]/D17, 138 P0[20]/IN2[4]/PMAT2[2]/A16, 139 P0[21]/IN2[5]/PMAT2[3]/A17, 140 P0[22]/IN2[6]/PMAT2[4]/A18, 142 P0[23]/IN2[7]/PMAT2[5]/A19, 143 P2[20]/PCAP2[0]/D18, 144 TDI

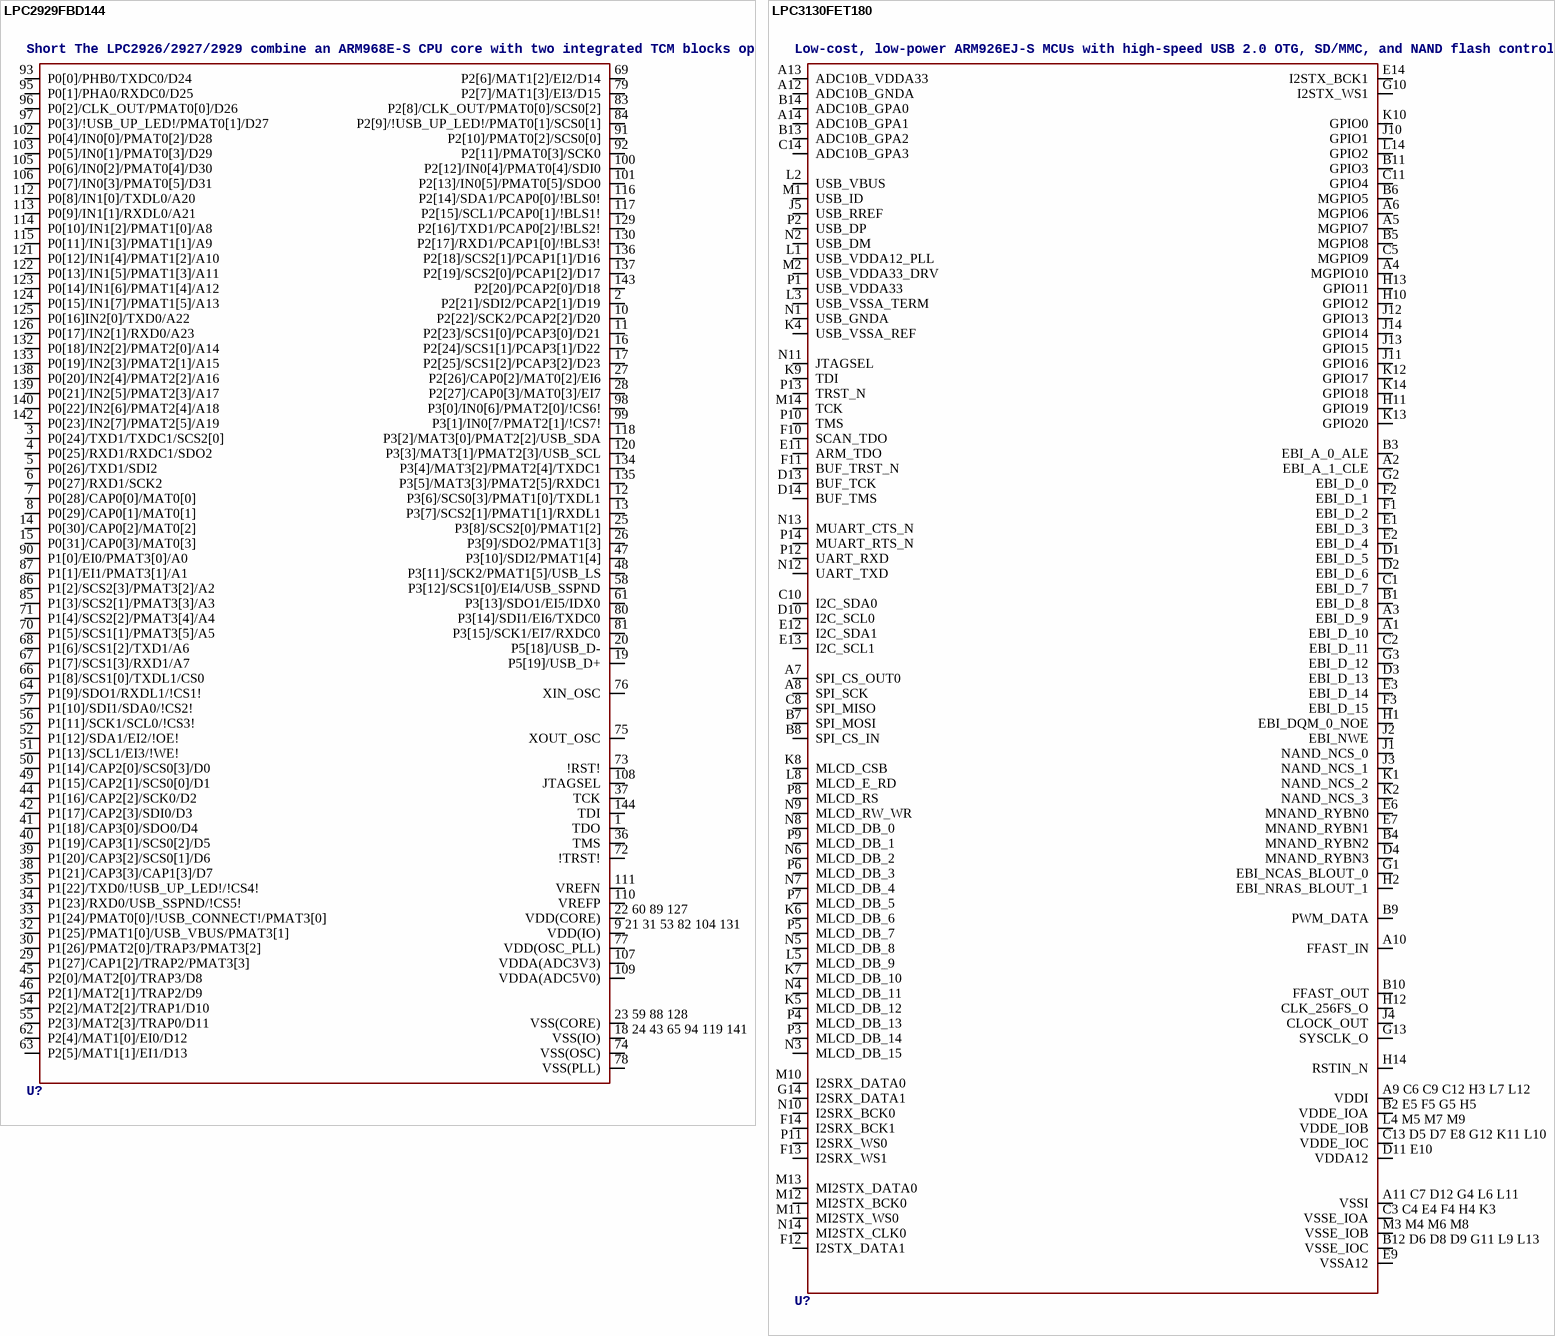
[diagram p114: symbols LPC2929FBD144 to LPC3130FET180]